# Altium schematic symbol library pwr_switching_buck_hv.SchLib: 116 symbols (part 1 of 2)
Pins are listed as number, name and electrical type; pins without a type are passive.

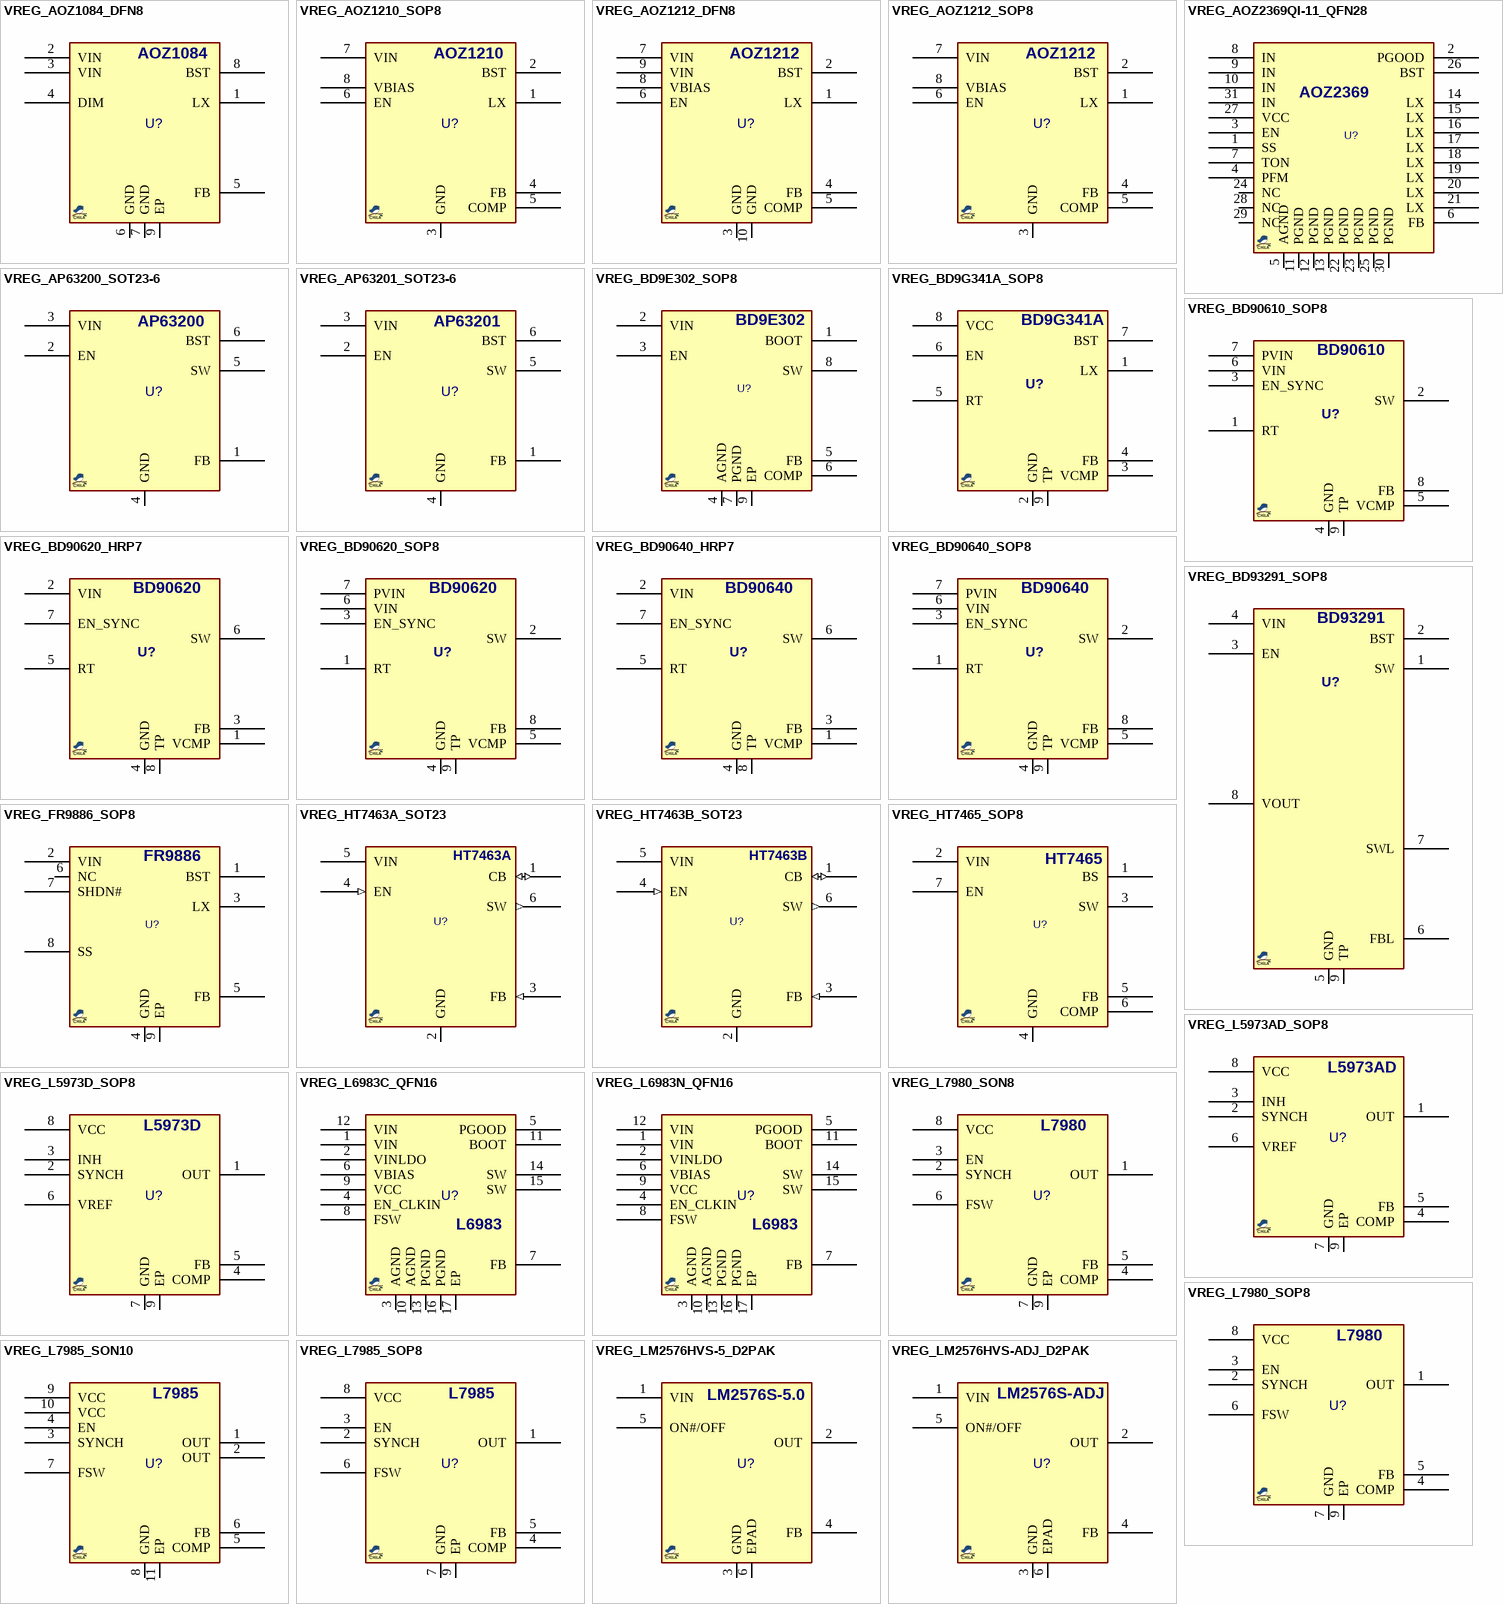
[diagram p0: symbols VREG_AOZ1084_DFN8 to VREG_LM2576HVS-ADJ_D2PAK]

## VREG_AOZ1084_DFN8
designator U?, comment AOZ1084  (value not drawn)
REG, Switching, Buck LED driv, 1.2A, ADJ, 0.45MHz, 4.5~36VIN, DFN8; MANF: AOSMD; PARAM: 1.2A, 0.45MHz, -40~85°C; PARAM2: 4.5~36VIN, 420mΩ RDSon; MANF_P#: AOZ1084DI; ASSEMBLY: ASSEMBLY; PRICE: 1$; VALUE: AOZ1084; PACKAGE: DFN-8
footprint SON50_8T_2020 (DSG PWSON (TI), Pitch: 0.5mm 2x2x0.8mm with Thermal pad)
pins: 1 LX, 2 VIN, 3 VIN, 4 DIM, 5 FB, 6 GND, 7 GND, 8 BST, 9 EP

## VREG_AOZ1210_SOP8
designator U?, comment AOZ1210  (value not drawn)
REG, Switching, Buck, 2A, ADJ, 0.37MHz, 4.5~27VIN, SOP8; MANF: AOSMD; PARAM: 2A, 0.37MHz, -40~85°C; PARAM2: 4.5~27VIN, ADJ, 70mΩ RDSon; MANF_P#: AOZ1210AI; ASSEMBLY: ASSEMBLY; PRICE: 1$; VALUE: AOZ1210; PACKAGE: SOP-8
footprint SO_8 (SOP-8, 5x3.9mm body 1.27mm pitch, SOT96-1, M08A, S8, SOIC8, VO8, MS-012AA(JEDEC), R-8, 8S2, VOG8)
pins: 1 LX, 2 BST, 3 GND, 4 FB, 5 COMP, 6 EN, 7 VIN, 8 VBIAS

## VREG_AOZ1212_DFN8
designator U?, comment AOZ1212  (value not drawn)
REG, Switching, Buck, 3A, ADJ, 0.37MHz, 4.5~27VIN, DFN8; MANF: AOSMD; PARAM: 3A, 0.37MHz, -40~85°C; PARAM2: 4.5~27VIN, ADJ, 70mΩ RDSon; MANF_P#: AOZ1212DI; ASSEMBLY: ASSEMBLY; PRICE: 1$; VALUE: AOZ1212; PACKAGE: DFN-8
footprint SON95_8T2_5040 (5x4A DFN-8, 0.95mm pitch, 5X4X0.8mm)
pins: 1 LX, 2 BST, 3 GND, 4 FB, 5 COMP, 6 EN, 7 VIN, 8 VBIAS, 9 VIN, 10 GND

## VREG_AOZ1212_SOP8
designator U?, comment AOZ1212  (value not drawn)
REG, Switching, Buck, 3A, ADJ, 0.37MHz, 4.5~27VIN, SOP8; MANF: AOSMD; PARAM: 3A, 0.37MHz, -40~85°C; PARAM2: 4.5~27VIN, ADJ, 70mΩ RDSon; MANF_P#: AOZ1212AI; ASSEMBLY: ASSEMBLY; PRICE: 1$; VALUE: AOZ1212; PACKAGE: SOP-8
footprint SO_8 (SOP-8, 5x3.9mm body 1.27mm pitch, SOT96-1, M08A, S8, SOIC8, VO8, MS-012AA(JEDEC), R-8, 8S2, VOG8)
pins: 1 LX, 2 BST, 3 GND, 4 FB, 5 COMP, 6 EN, 7 VIN, 8 VBIAS

## VREG_AOZ2369QI-11_QFN28
designator U?, comment AOZ2369QI-11  (value not drawn)
REG, Switching, Buck, 30A, ADJ, 1MHz, 4.5~24VIN, QFN28; MANF: AOS; PARAM: 30A, 1MHz, -40~85°C; PARAM2: 4.5~24VIN, ADJ, 3/0.9mOhm RDSon; MANF_P#: AOZ2369QI-11; ASSEMBLY: ASSEMBLY; PRICE: ?; VALUE: AOZ2369QI-11; PACKAGE: QFN-28
footprint QFN50_28_EP3 (QFN5x5-28L EP3_S)
pins: 1 SS, 2 PGOOD, 3 EN, 4 PFM, 5 AGND, 6 FB, 7 TON, 8 IN, 9 IN, 10 IN, 11 PGND, 12 PGND, 13 PGND, 14 LX, 15 LX, 16 LX, 17 LX, 18 LX, 19 LX, 20 LX, 21 LX, 22 PGND, 23 PGND, 24 NC, 25 PGND, 26 BST, 27 VCC, 28 NC, 29 NC, 30 PGND, 31 IN
text: AOZ2369

## VREG_AP63200_SOT23-6
designator U?, comment AP63200  (value not drawn)
REG, Switching, Buck, 2A, ADJ, 0.5MHz, 3.8~32VIN, SOT23-6; MANF: DIODES; PARAM: 2A, 0.5MHz, PWM/PFM, -40~125oC; PARAM2: 3.8~32VIN, ADJ, 125mΩ RDSon; MANF_P#: AP63200WU-7; ASSEMBLY: ASSEMBLY; PRICE: 1$; VALUE: AP63200; PACKAGE: SOT23-6
footprint SOT23_6 (SOT-23-6, MICRO6, SOT-26, SOT457, SuperSOT6, TSOP-6, HMC313, MO-178AB, MO-193AA, TSOT)
pins: 1 FB, 2 EN, 3 VIN, 4 GND, 5 SW, 6 BST

## VREG_AP63201_SOT23-6
designator U?, comment AP63201  (value not drawn)
REG, Switching, Buck, 2A, ADJ, 0.5MHz, 3.8~32VIN, SOT23-6; MANF: DIODES; PARAM: 2A, 0.5MHz, PWM only, -40~125oC; PARAM2: 3.8~32VIN, ADJ, 125mΩ RDSon; MANF_P#: AP63201WU-7; ASSEMBLY: ASSEMBLY; PRICE: 1$; VALUE: AP63201; PACKAGE: SOT23-6
footprint SOT23_6 (SOT-23-6, MICRO6, SOT-26, SOT457, SuperSOT6, TSOP-6, HMC313, MO-178AB, MO-193AA, TSOT)
pins: 1 FB, 2 EN, 3 VIN, 4 GND, 5 SW, 6 BST

## VREG_BD9E302_SOP8
designator U?, comment BD9E302  (value not drawn)
REG, Switching, Buck, 3A, ADJ, 0.55MHz, 7.0~28VIN, SOP8; MANF: ROHM; MANF_P#: BD9E302EFJ; PARAM: 3A, 0.55MHz, -40~85oC; PARAM2: 7.0~28VIN, ADJ, 90/70mOhm RDSon; ASSEMBLY: ASSEMBLY; PRICE: 1$; VALUE: BD9E302; PACKAGE: SOP-8
footprint SO_8T (SOP-8, 5x3.9mm body 0.5mm pitch, DDA, SO PowerPAD)
pins: 1 BOOT, 2 VIN, 3 EN, 4 AGND, 5 FB, 6 COMP, 7 PGND, 8 SW, 9 EP

## VREG_BD9G341A_SOP8
designator U?, comment BD9G341A  (value not drawn)
REG, Switching, Buck, 3A, ADJ, 0.75MHz, 12~76VIN, SOP8; MANF: ROHM; MANF_P#: BD9G341AEFJ; PARAM2: 12~76Vin, 150mOhm RDSon; PARAM: 3A, 0.75MHz, -40+85°C; ASSEMBLY: ASSEMBLY; PRICE: 4$; VALUE: BD9G341A; PACKAGE: SOP-8
footprint SO_8T (SOP-8, 5x3.9mm body 0.5mm pitch, DDA, SO PowerPAD)
pins: 1 LX "Switching node. It should be connected as near as possible to the schottky barrier diode, and inductor.", 2 GND "Ground pin. GND pattern is kept from the current line of input capacitor to output capacitor.", 3 VCMP "The output of the internal error amplifier. The phase compensation implementation is connected between this pin to GND.", 4 FB "Voltage feedback pin. This pin is the error-amp input with the DC voltage is set at 1.0V with feed-back operation.", 5 RT "The internal oscillator frequency set pin. The internal oscillator is set with a single resistor connected between this pin and the GND pin. Recommended frequency range is 50kHz to 750kHz", 6 EN "Shutdown pin. If the voltage of this pin is below 1.3V,the regulator will be in a low power state.", 7 BST "Boost input for bootstrap capacitor The external capacitor is required between the BST and the Lx pin. A 0.1uF ceramic capacitor is recommended.", 8 VCC "Input supply voltage pin.", 9 TP "Connect to GND."

## VREG_BD90610_SOP8
designator U?, comment BD90610  (value not drawn)
REG, Switching, Buck, 1.25A, ADJ, 0.6MHz, 3.5~36VIN, SOP8; MANF: ROHM; MANF_P#: BD90610EFJ; PARAM2: 3.5~36Vin, 160mOhm RDSon; PARAM: 1.25A, 0.6MHz, -40+85°C; ASSEMBLY: ASSEMBLY; PRICE: 1.8$; VALUE: BD90610; PACKAGE: SOP-8
footprint SO_8T (SOP-8, 5x3.9mm body 0.5mm pitch, DDA, SO PowerPAD)
pins: 1 RT "Input supply voltage pin.", 2 SW "Input supply voltage pin.", 3 EN_SYNC "Input supply voltage pin.", 4 GND "Ground pin. GND pattern is kept from the current line of input capacitor to output capacitor.", 5 VCMP "Input supply voltage pin.", 6 VIN "Input supply voltage pin.", 7 PVIN "Input supply voltage pin.", 8 FB "Input supply voltage pin.", 9 TP "Connect to GND."

## VREG_BD90620_HRP7
designator U?, comment BD90620  (value not drawn)
REG, Switching, Buck, 2.5A, ADJ, 0.6MHz, 3.5~36VIN, SOP8; MANF: ROHM; MANF_P#: BD90620HFP; PARAM2: 3.5~36Vin, 160mOhm RDSon; PARAM: 2.5A, 0.6MHz, -40+85°C; ASSEMBLY: ASSEMBLY; PRICE: 3.5$; VALUE: BD90620; PACKAGE: HRP-7
footprint HRP_7 (HRP7, 1.27mm pitch)
pins: 1 VCMP "Input supply voltage pin.", 2 VIN "Input supply voltage pin.", 3 FB "Input supply voltage pin.", 4 GND "Ground pin. GND pattern is kept from the current line of input capacitor to output capacitor.", 5 RT "Input supply voltage pin.", 6 SW "Input supply voltage pin.", 7 EN_SYNC "Input supply voltage pin.", 8 TP "Connect to GND."

## VREG_BD90620_SOP8
designator U?, comment BD90620  (value not drawn)
REG, Switching, Buck, 2.5A, ADJ, 0.6MHz, 3.5~36VIN, SOP8; MANF: ROHM; MANF_P#: BD90620EFJ; PARAM2: 3.5~36Vin, 160mOhm RDSon; PARAM: 2.5A, 0.6MHz, -40+85°C; ASSEMBLY: ASSEMBLY; PRICE: 1.8$; VALUE: BD90620; PACKAGE: SOP-8
footprint SO_8T (SOP-8, 5x3.9mm body 0.5mm pitch, DDA, SO PowerPAD)
pins: 1 RT "Input supply voltage pin.", 2 SW "Input supply voltage pin.", 3 EN_SYNC "Input supply voltage pin.", 4 GND "Ground pin. GND pattern is kept from the current line of input capacitor to output capacitor.", 5 VCMP "Input supply voltage pin.", 6 VIN "Input supply voltage pin.", 7 PVIN "Input supply voltage pin.", 8 FB "Input supply voltage pin.", 9 TP "Connect to GND."

## VREG_BD90640_HRP7
designator U?, comment BD90640  (value not drawn)
REG, Switching, Buck, 4A, ADJ, 0.6MHz, 3.5~36VIN, HRP7; MANF: ROHM; MANF_P#: BD90640HFP; PARAM2: 3.5~36Vin, 160mOhm RDSon; PARAM: 4A, 0.6MHz, -40+85°C; ASSEMBLY: ASSEMBLY; PRICE: 2.4$; VALUE: BD90640; PACKAGE: HRP-7
footprint HRP_7 (HRP7, 1.27mm pitch)
pins: 1 VCMP "Input supply voltage pin.", 2 VIN "Input supply voltage pin.", 3 FB "Input supply voltage pin.", 4 GND "Ground pin. GND pattern is kept from the current line of input capacitor to output capacitor.", 5 RT "Input supply voltage pin.", 6 SW "Input supply voltage pin.", 7 EN_SYNC "Input supply voltage pin.", 8 TP "Connect to GND."

## VREG_BD90640_SOP8
designator U?, comment BD90640  (value not drawn)
REG, Switching, Buck, 4A, ADJ, 0.6MHz, 3.5~36VIN, SOP8; MANF: ROHM; MANF_P#: BD90640EFJ; PARAM2: 3.5~36Vin, 160mOhm RDSon; PARAM: 4A, 0.6MHz, -40+85°C; ASSEMBLY: ASSEMBLY; PRICE: 1.8$; VALUE: BD90640; PACKAGE: SOP-8
footprint SO_8T (SOP-8, 5x3.9mm body 0.5mm pitch, DDA, SO PowerPAD)
pins: 1 RT "Input supply voltage pin.", 2 SW "Input supply voltage pin.", 3 EN_SYNC "Input supply voltage pin.", 4 GND "Ground pin. GND pattern is kept from the current line of input capacitor to output capacitor.", 5 VCMP "Input supply voltage pin.", 6 VIN "Input supply voltage pin.", 7 PVIN "Input supply voltage pin.", 8 FB "Input supply voltage pin.", 9 TP "Connect to GND."

## VREG_BD93291_SOP8
designator U?, comment BD93291  (value not drawn)
REG, Switching, Buck, Dual 2.5A/1.5A, ADJ, 0.3~0.6MHz, 8~26VIN, SOP8; MANF: ROHM; MANF_P#: BD93291EFJ; PARAM2: 8~26Vin, 5Vo1/Adj Vo2; PARAM: Dual 2.5A/1.5A, 0.3~0.6MHz, -40+85°C; ASSEMBLY: ASSEMBLY; PRICE: 1.8$; VALUE: BD93291; PACKAGE: SOP-8
footprint SO_8T (SOP-8, 5x3.9mm body 0.5mm pitch, DDA, SO PowerPAD)
pins: 1 SW "Input supply voltage pin.", 2 BST "Input supply voltage pin.", 3 EN "Input supply voltage pin.", 4 VIN "Input supply voltage pin.", 5 GND "Ground pin. GND pattern is kept from the current line of input capacitor to output capacitor.", 6 FBL "Input supply voltage pin.", 7 SWL "Input supply voltage pin.", 8 VOUT "Input supply voltage pin.", 9 TP "Connect to GND."

## VREG_FR9886_SOP8
designator U?, comment FR9886  (value not drawn)
REG, Switching, Buck, 2.5A, ADJ, 0.34MHz, 4.5~23VIN, SOP8; MANF: FITI; MANF_P#: FR9886SO, FR9886SP; PARAM: 3A, 0.34MHz, -40~85°C; PARAM2: 4.5~23VIN, ADJ, 120mOhm RDSon; ASSEMBLY: ASSEMBLY; PRICE: 2t; VALUE: FR9886; PACKAGE: SOP-8
footprint SO_8T (SOP-8, 5x3.9mm body 0.5mm pitch, DDA, SO PowerPAD)
pins: 1 BST, 2 VIN, 3 LX, 4 GND, 5 FB, 6 NC, 7 SHDN#, 8 SS, 9 EP

## VREG_HT7463A_SOT23
designator U?, comment HT7463A  (value not drawn)
REG, Switching, Buck, 0.6A, ADJ, 1.25MHz, 4.5~52VIN, SOT23-6; MANF: HOLTEK; PARAM2: 4.5~52Vin, 0.9Ohm RDSon; PARAM: 0.6A, 1.25MHz, -40+85°C; ASSEMBLY: ASSEMBLY; MANF_P#: HT7463A; PRICE: 1.4t@Micromodern; VALUE: HT7463A; PACKAGE: SOT23-6
footprint SOT23_6 (SOT-23-6, DDC, DBV, MICRO6, SOT-26, SOT457, SuperSOT6, TSOP-6, HMC313, TSOT, 1.5x3mm, Pitch 0.65mm, CA531, MO-178AB, MO-193AA)
pins: 1 CB (io) "SW FET gate bias voltage. Connect the boot capacitor between CB and SW", 2 GND (power) "Ground terminal", 3 FB (in) "Feedback pin: Set feedback voltage divider ratio with VOUT = VFB (1+(R1/R2))", 4 EN (in) "Logic level shutdown pin. Internal pull low resistor", 5 VIN (power) "Power supply", 6 SW (out) "Power FET output"

## VREG_HT7463B_SOT23
designator U?, comment HT7463B  (value not drawn)
REG, Switching, Buck, 0.6A, ADJ, 0.55MHz, 4.5~52VIN, SOT23-6; MANF: HOLTEK; PARAM2: 4.5~52Vin, 0.9Ohm RDSon; PARAM: 0.6A, 0.55MHz, -40+85°C; ASSEMBLY: ASSEMBLY; MANF_P#: HT7463B; PRICE: 1.4t@Micromodern; VALUE: HT7463B; PACKAGE: SOT23-6
footprint SOT23_6 (SOT-23-6, DDC, DBV, MICRO6, SOT-26, SOT457, SuperSOT6, TSOP-6, HMC313, TSOT, 1.5x3mm, Pitch 0.65mm, CA531, MO-178AB, MO-193AA)
pins: 1 CB (io) "SW FET gate bias voltage. Connect the boot capacitor between CB and SW", 2 GND (power) "Ground terminal", 3 FB (in) "Feedback pin: Set feedback voltage divider ratio with VOUT = VFB (1+(R1/R2))", 4 EN (in) "Logic level shutdown pin. Internal pull low resistor", 5 VIN (power) "Power supply", 6 SW (out) "Power FET output"

## VREG_HT7465_SOP8
designator U?, comment HT7465  (value not drawn)
REG, Switching, Buck, 2A, ADJ, 0.38MHz, 4.75~24VIN, SOP-A8; MANF: HOLTEK; PARAM: 2A, ADJ, -40~85oC; MANF_P#: HT7465; ASSEMBLY: ASSEMBLY; PARAM2: 0.38MHz, 4.75~24VIN; PRICE: 2.2t@micromodern; VALUE: HT7465; PACKAGE: SOP-8
footprint SO_8 (SOP-8, 5x3.9mm body 1.27mm pitch, SOT96-1, M08A, S8, SOIC8, VO8, MS-012AA(JEDEC), R-8, 8S2, VOG8)
pins: 1 BS, 2 VIN, 3 SW, 4 GND, 5 FB, 6 COMP, 7 EN

## VREG_L5973AD_SOP8
designator U?, comment L5973AD  (value not drawn)
REG, Switching, Buck, 2A, ADJ, 0.5MHz, 4~36VIN, SOP8; MANF: ST; PARAM: 2A, 0.5MHz, -40~125°C; PARAM2: 4~36VIN, ADJ, 200mΩ RDSon; ASSEMBLY: ASSEMBLY; PRICE: 1.8$; MANF_P#: L5973AD; VALUE: L5973AD; PACKAGE: SOP-8
footprint SO_8T (SOP-8, 5x3.9mm body 0.5mm pitch, DDA, SO PowerPAD)
pins: 1 OUT (power) "Power supply", 2 SYNCH (power) "Power supply", 3 INH (power) "Power supply", 4 COMP (power) "Power supply", 5 FB (power) "Power supply", 6 VREF (power) "Power supply", 7 GND (power) "Power supply", 8 VCC (power) "Power supply", 9 EP (power) "Power supply"

## VREG_L5973D_SOP8
designator U?, comment L5973D  (value not drawn)
REG, Switching, Buck, 2.5A, ADJ, 0.25MHz, 4~36VIN, SOP8; MANF: ST; PARAM: 2.5A, 0.25MHz, -40~125°C; PARAM2: 4~36VIN, ADJ, 250mΩ RDSon; ASSEMBLY: ASSEMBLY; PRICE: 1.8$; MANF_P#: L5973D; VALUE: L5973D; PACKAGE: SOP-8
footprint SO_8T (SOP-8, 5x3.9mm body 0.5mm pitch, DDA, SO PowerPAD)
pins: 1 OUT (power) "Power supply", 2 SYNCH (power) "Power supply", 3 INH (power) "Power supply", 4 COMP (power) "Power supply", 5 FB (power) "Power supply", 6 VREF (power) "Power supply", 7 GND (power) "Power supply", 8 VCC (power) "Power supply", 9 EP (power) "Power supply"

## VREG_L6983C_QFN16
designator U?, comment L6983  (value not drawn)
REG, Switching, Buck, 3A, ADJ, 0.2~2.2MHz, 3.5~38VIN, QFN16; MANF: ST; PARAM: 3A, 0.2~2.2MHz, -40~125°C; PARAM2: 3.5~38VIN, ADJ, Low Consumption; MANF_P#: L6983CQ; ASSEMBLY: ASSEMBLY; PRICE: 2.5$; VALUE: L6983; PACKAGE: QFN-16
footprint QFN50_16T_3X3 (RGT PVQFN (TI), 16-lead, pitch: 0.5mm, 3x3mm)
pins: 1 VIN, 2 VINLDO, 3 AGND, 4 EN_CLKIN, 5 PGOOD, 6 VBIAS, 7 FB, 8 FSW, 9 VCC, 10 AGND, 11 BOOT, 12 VIN, 13 PGND, 14 SW, 15 SW, 16 PGND, 17 EP (power) "Power supply"

## VREG_L6983N_QFN16
designator U?, comment L6983  (value not drawn)
REG, Switching, Buck, 3A, ADJ, 0.2~2.2MHz, 3.5~38VIN, QFN16; MANF: ST; PARAM: 3A, 0.2~2.2MHz, -40~125°C; PARAM2: 3.5~38VIN, ADJ, Low Noise; MANF_P#: L6983NQ; ASSEMBLY: ASSEMBLY; PRICE: 2.5$; VALUE: L6983; PACKAGE: QFN-16
footprint QFN50_16T_3X3 (RGT PVQFN (TI), 16-lead, pitch: 0.5mm, 3x3mm)
pins: 1 VIN, 2 VINLDO, 3 AGND, 4 EN_CLKIN, 5 PGOOD, 6 VBIAS, 7 FB, 8 FSW, 9 VCC, 10 AGND, 11 BOOT, 12 VIN, 13 PGND, 14 SW, 15 SW, 16 PGND, 17 EP (power) "Power supply"

## VREG_L7980_SON8
designator U?, comment L7980  (value not drawn)
REG, Switching, Buck, 2A, ADJ, 0.25~1MHz, 4.5~28VIN, SON8; MANF: ST; PARAM: 2A, 0.25~1MHz, -40~125°C; PARAM2: 4.5~28VIN, ADJ, 180mΩ RDSon; ASSEMBLY: ASSEMBLY; PRICE: 1.8$; MANF_P#: L7980; VALUE: L7980; PACKAGE: WSON-8
footprint SON50_8T_3030 (WSON-8, DRG, LFCSP_WD, 3X3mm 0.5mm pitch with Thermal pad)
pins: 1 OUT (power) "Power supply", 2 SYNCH (power) "Power supply", 3 EN (power) "Power supply", 4 COMP (power) "Power supply", 5 FB (power) "Power supply", 6 FSW (power) "Power supply", 7 GND (power) "Power supply", 8 VCC (power) "Power supply", 9 EP (power) "Power supply"

## VREG_L7980_SOP8
designator U?, comment L7980  (value not drawn)
REG, Switching, Buck, 2A, ADJ, 0.25~1MHz, 4.5~28VIN, SOP8; MANF: ST; PARAM: 2A, 0.25~1MHz, -40~125°C; PARAM2: 4.5~28VIN, ADJ, 180mΩ RDSon; MANF_P#: L7980A; ASSEMBLY: ASSEMBLY; PRICE: 1.8$; VALUE: L7980; PACKAGE: SOP-8
footprint SO_8T (SOP-8, 5x3.9mm body 0.5mm pitch, DDA, SO PowerPAD)
pins: 1 OUT (power) "Power supply", 2 SYNCH (power) "Power supply", 3 EN (power) "Power supply", 4 COMP (power) "Power supply", 5 FB (power) "Power supply", 6 FSW (power) "Power supply", 7 GND (power) "Power supply", 8 VCC (power) "Power supply", 9 EP (power) "Power supply"

## VREG_L7985_SON10
designator U?, comment L7985  (value not drawn)
REG, Switching, Buck, 2A, ADJ, 0.25~1MHz, 4.5~28VIN, SON10; MANF: ST; PARAM: 2A, 0.25~1MHz, -40~125°C; PARAM2: 4.5~38VIN, ADJ, 180mΩ RDSon; MANF_P#: L7985T; ASSEMBLY: ASSEMBLY; PRICE: 2$; VALUE: L7985; PACKAGE: VFDFPN10
footprint SON50_10T_3030 (DRC SON, 10 TDFN, 3X3mm, Pitch: 0.5mm with thermal pad)
pins: 1 OUT (power) "Power supply", 2 OUT (power) "Power supply", 3 SYNCH (power) "Power supply", 4 EN (power) "Power supply", 5 COMP (power) "Power supply", 6 FB (power) "Power supply", 7 FSW (power) "Power supply", 8 GND (power) "Power supply", 9 VCC (power) "Power supply", 10 VCC (power) "Power supply", 11 EP (power) "Power supply"

## VREG_L7985_SOP8
designator U?, comment L7985  (value not drawn)
REG, Switching, Buck, 2A, ADJ, 0.25~1MHz, 4.5~28VIN, SOP8; MANF: ST; PARAM: 2A, 0.25~1MHz, -40~125°C; PARAM2: 4.5~38VIN, ADJ, 180mΩ RDSon; MANF_P#: L7985A; ASSEMBLY: ASSEMBLY; PRICE: 2$; VALUE: L7985; PACKAGE: SOP-8
footprint SO_8T (SOP-8, 5x3.9mm body 0.5mm pitch, DDA, SO PowerPAD)
pins: 1 OUT (power) "Power supply", 2 SYNCH (power) "Power supply", 3 EN (power) "Power supply", 4 COMP (power) "Power supply", 5 FB (power) "Power supply", 6 FSW (power) "Power supply", 7 GND (power) "Power supply", 8 VCC (power) "Power supply", 9 EP (power) "Power supply"

## VREG_LM2576HVS-5_D2PAK
designator U?, comment LM2576S-5.0  (value not drawn)
REG, Switching, Buck, 3A, 5V, 50KHz, HV, TO-263; MANF: TI, ON, HTC, MICROCHIP; PARAM: 3A,; PARAM2: 50KHz, 60VIN, 5V; MANF_P#: LM2576HVS-5.0; ASSEMBLY: ASSEMBLY; PRICE: PRICE; VALUE: LM2576S-5.0; PACKAGE: D2PAK-5 (TO-263-5)
footprint D2PAK_5 (TO-263-5L, D2PAK-5, DDPAK, FMG170_5_S1000)
pins: 1 VIN (power), 2 OUT (power), 3 GND (power), 4 FB, 5 ON#/OFF, 6 EPAD

## VREG_LM2576HVS-ADJ_D2PAK
designator U?, comment LM2576HVS-ADJ  (value not drawn)
REG, Switching, Buck, 3A, ADJ, 50KHz, TO-263; MANF: TI, ON, HTC, MICROCHIP; PARAM2: 50KHz, 60VIN, ADJ; ASSEMBLY: ASSEMBLY; PARAM: 3A; PRICE: PRICE; MANF_P#: LM2576HVS-ADJ; VALUE: LM2576HVS-ADJ; PACKAGE: D2PAK-5 (TO-263-5)
footprint D2PAK_5 (TO-263-5L, D2PAK-5, DDPAK, FMG170_5_S1000)
pins: 1 VIN (power), 2 OUT (power), 3 GND (power), 4 FB, 5 ON#/OFF, 6 EPAD
text: LM2576S-ADJ

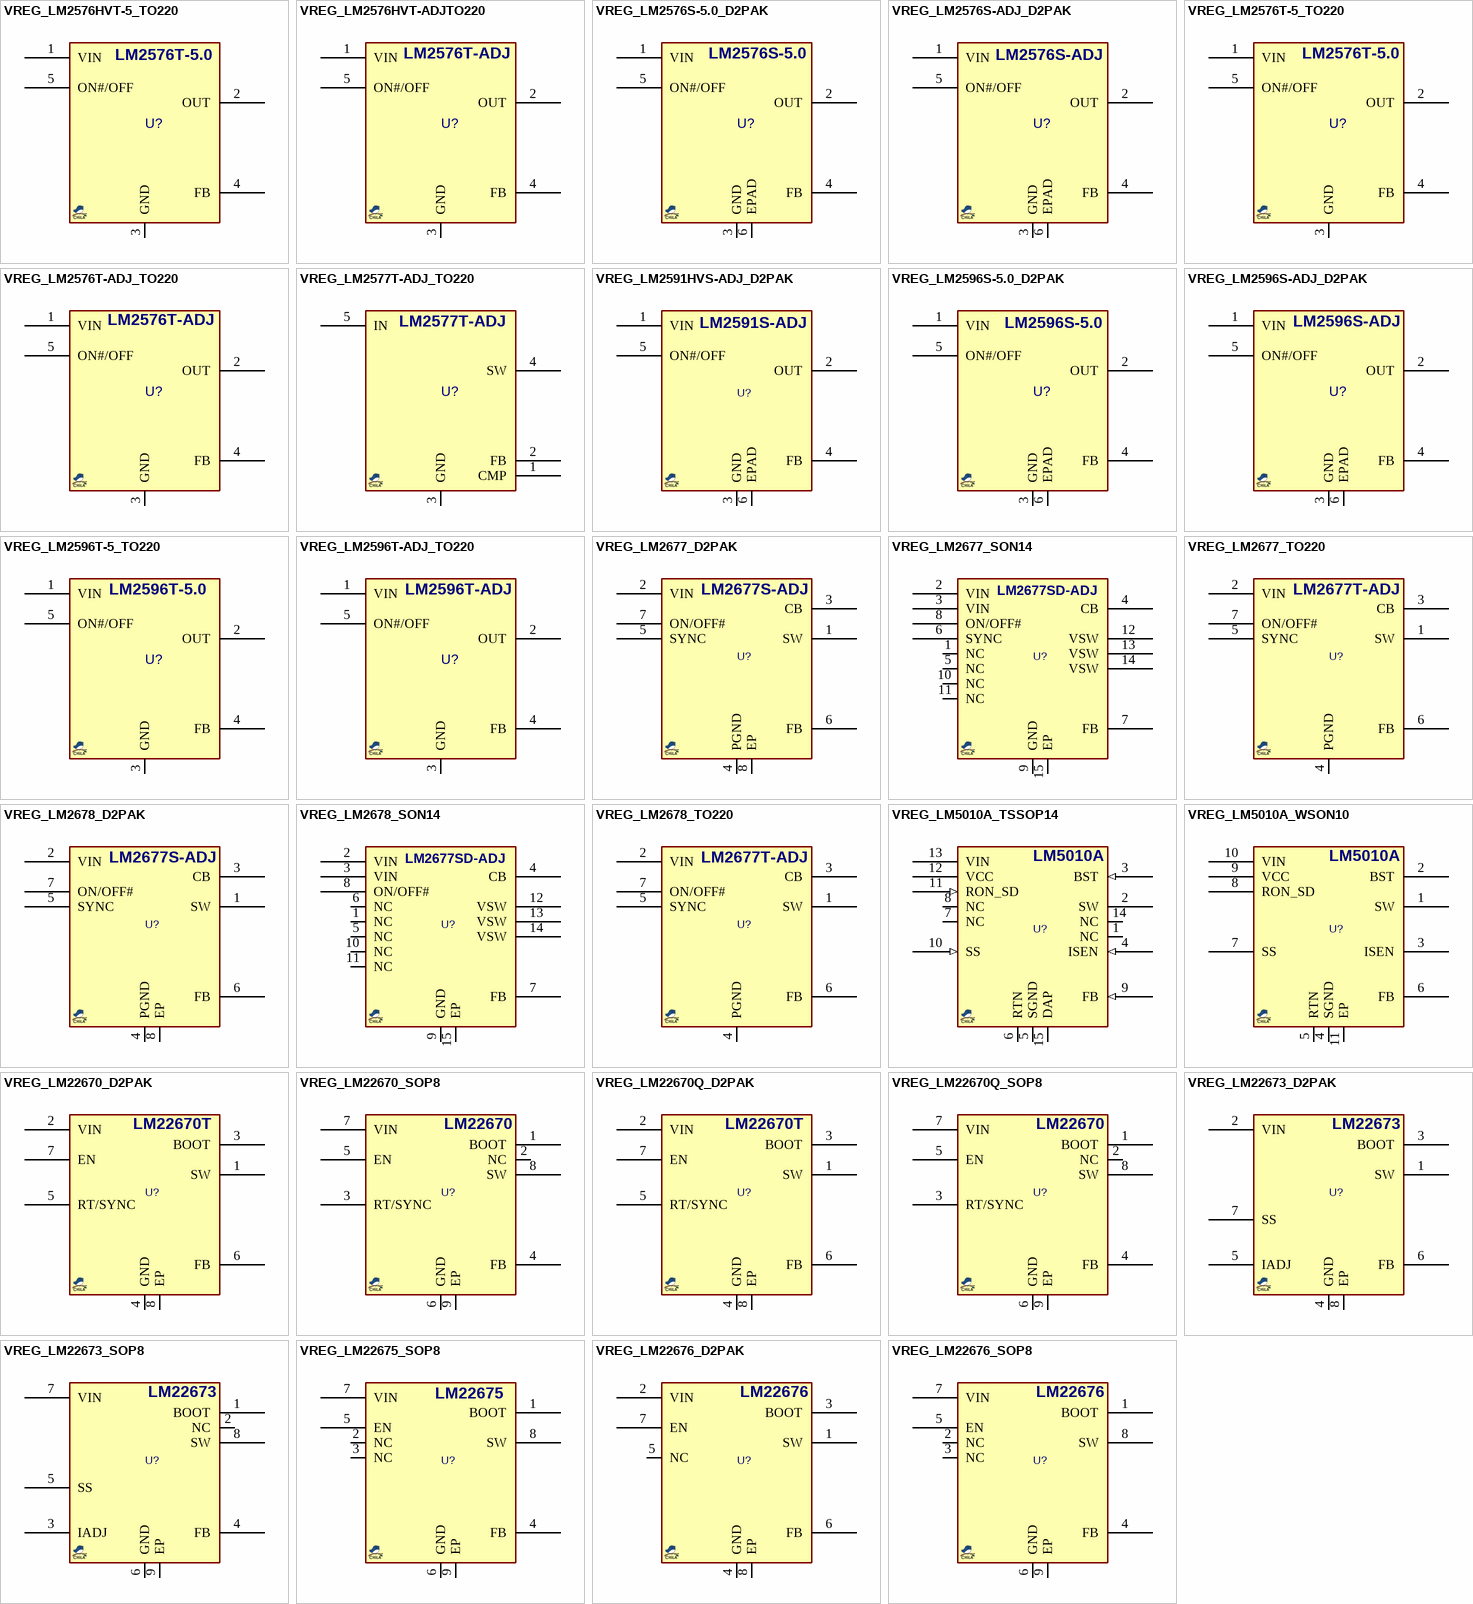
[diagram p1: symbols VREG_LM2576HVT-5_TO220 to VREG_LM22676_SOP8]

## VREG_LM2576HVT-5_TO220
designator U?, comment LM2576HVT-5  (value not drawn)
REG, Switching, Buck, 3A, 5V, 50KHz, HV, TO-220; MANF: TI, ON, HTC, MICROCHIP; PARAM: 3A, 5V; PARAM2: 50KHz, 60VIN; MANF_P#: LM2576HVT-5.0; ASSEMBLY: ASSEMBLY; PRICE: PRICE; DESC: REG, Switching, Buck, 3A, 5V, 50KHz, HV, TO-220; VALUE: LM2576HVT-5; PACKAGE: TO-220-5
footprint TO220_5 (TO-220 STRAIGHT, T05A pitch: 1.7mm)
pins: 1 VIN (power), 2 OUT (power), 3 GND (power), 4 FB, 5 ON#/OFF
text: LM2576T-5.0

## VREG_LM2576HVT-ADJTO220
designator U?, comment LM2576HVT-ADJ  (value not drawn)
REG, Switching, Buck, 3A, ADJ, 50KHz, HV, TO-220; MANF: TI, ON, HTC, MICROCHIP; PARAM: 3A, ADJ; PARAM2: 50KHz, 60VIN; ASSEMBLY: ASSEMBLY; PRICE: PRICE; DESC: REG, Switching, Buck, 3A, ADJ, 50KHz, HV, TO-220; MANF_P#: LM2576HVT-ADJ; VALUE: LM2576HVT-ADJ; PACKAGE: TO-220-5
footprint TO220_5 (TO-220 STRAIGHT, T05A pitch: 1.7mm)
pins: 1 VIN (power), 2 OUT (power), 3 GND (power), 4 FB, 5 ON#/OFF
text: LM2576T-ADJ

## VREG_LM2576S-5.0_D2PAK
designator U?, comment LM2576S-5.0  (value not drawn)
REG, Switching, Buck, 3A, 5V, 50KHz, TO-220; MANF: TI, ON, HTC, MICROCHIP; PARAM: 3A, 5V; DESC: REG, Switching, Buck, 3A, ADJ, 50KHz, TO-220; PARAM2: 50KHz, 40VIN; ASSEMBLY: ASSEMBLY; PRICE: PRICE; MANF_P#: LM2576S-5.0; VALUE: LM2576S-5.0; PACKAGE: D2PAK-5 (TO-263-5)
footprint D2PAK_5 (TO-263-5L, D2PAK-5, DDPAK, FMG170_5_S1000)
pins: 1 VIN (power), 2 OUT (power), 3 GND (power), 4 FB, 5 ON#/OFF, 6 EPAD

## VREG_LM2576S-ADJ_D2PAK
designator U?, comment LM2576S-ADJ  (value not drawn)
REG, Switching, Buck, 3A, ADJ, 50KHz, TO-220; MANF: TI, ON, HTC, MICROCHIP; PARAM: 3A, ADJ; PARAM2: 50KHz, 40VIN; ASSEMBLY: ASSEMBLY; PRICE: PRICE; DESC: REG, Switching, Buck, 3A, ADJ, 50KHz, TO-220; MANF_P#: LM2576S-ADJ; VALUE: LM2576S-ADJ; PACKAGE: D2PAK-5 (TO-263-5)
footprint D2PAK_5 (TO-263-5L, D2PAK-5, DDPAK, FMG170_5_S1000)
pins: 1 VIN (power), 2 OUT (power), 3 GND (power), 4 FB, 5 ON#/OFF, 6 EPAD

## VREG_LM2576T-5_TO220
designator U?, comment LM2576T-5  (value not drawn)
REG, Switching, Buck, 3A, 5.0V, 50KHz, TO-220; MANF: TI, ON, HTC, MICROCHIP; PARAM: 3A, 5V; DESC: REG, Switching, Buck, 3A, ADJ, 50KHz, TO-220; PARAM2: 50KHz, 40VIN; MANF_P#: LM2576T-5.0; ASSEMBLY: ASSEMBLY; PRICE: PRICE; VALUE: LM2576T-5; PACKAGE: TO-220-5
footprint TO220_5 (TO-220 STRAIGHT, T05A pitch: 1.7mm)
pins: 1 VIN (power), 2 OUT (power), 3 GND (power), 4 FB, 5 ON#/OFF

## VREG_LM2576T-ADJ_TO220
designator U?, comment LM2576T-ADJ  (value not drawn)
REG, Switching, Buck, 3A, ADJ, 50KHz, TO-220; MANF: TI, ON, HTC, MICROCHIP; PARAM: 3A, ADJ; PARAM2: 50KHz, 40VIN; ASSEMBLY: ASSEMBLY; PRICE: PRICE; DESC: REG, Switching, Buck, 3A, ADJ, 50KHz, TO-220; MANF_P#: LM2576T-ADJ; VALUE: LM2576T-ADJ; PACKAGE: TO-220-5
footprint TO220_5 (TO-220 STRAIGHT, T05A pitch: 1.7mm)
pins: 1 VIN (power), 2 OUT (power), 3 GND (power), 4 FB, 5 ON#/OFF

## VREG_LM2577T-ADJ_TO220
designator U?, comment LM2577T-ADJ  (value not drawn)
REG, Switching, Buck, 3A, ADJ, 52KHz, TO-220; MANF: TI, ON; PARAM: 3A, ADJ; PARAM2: 52KHz, 40VIN; ASSEMBLY: ASSEMBLY; PRICE: PRICE; DESC: REG, Switching, Buck, 3A, ADJ, 52KHz, TO-220; MANF_P#: LM2577T-ADJ; VALUE: LM2577T-ADJ; PACKAGE: TO-220-5
footprint TO220_5 (TO-220 STRAIGHT, T05A pitch: 1.7mm)
pins: 1 CMP, 2 FB, 3 GND (power), 4 SW (power), 5 IN (power)

## VREG_LM2591HVS-ADJ_D2PAK
designator U?, comment LM2591HVS-ADJ  (value not drawn)
REG, Switching, Buck, 1A, ADJ, 150KHz, TO-263; MANF: Texas Instruments; PARAM2: 4.75~60V, ADJ; PARAM: 1A, 150kHz; ASSEMBLY: ASSEMBLY; MANF_P#: LM2591HVS-ADJ; VALUE: LM2591HVS-ADJ; PACKAGE: D2PAK-5 (TO-263-5)
footprint D2PAK_5
pins: 1 VIN (power), 2 OUT (power), 3 GND (power), 4 FB, 5 ON#/OFF, 6 EPAD
text: LM2591S-ADJ

## VREG_LM2596S-5.0_D2PAK
designator U?, comment LM2596S-5.0  (value not drawn)
REG, Switching, Buck, 3A, 5V, 150KHz, TO-220; MANF: TI, ON, TS; PARAM: 3A, 5V; DESC: REG, Switching, Buck, 3A, ADJ, 150KHz, TO-220; PARAM2: 150KHz, 40VIN; MANF_P#: LM2596S-ADJ; ASSEMBLY: ASSEMBLY; PRICE: PRICE; VALUE: LM2596S-5.0; PACKAGE: D2PAK-5 (TO-263-5)
footprint D2PAK_5 (TO-263-5L, D2PAK-5, DDPAK, FMG170_5_S1000)
pins: 1 VIN (power), 2 OUT (power), 3 GND (power), 4 FB, 5 ON#/OFF, 6 EPAD

## VREG_LM2596S-ADJ_D2PAK
designator U?, comment LM2596S-ADJ  (value not drawn)
REG, Switching, Buck, 3A, ADJ, 150KHz, TO-263; MANF: TI, ON, TS; PARAM: 3A, ADJ; PARAM2: 50KHz, 40VIN; ASSEMBLY: ASSEMBLY; PRICE: PRICE; DESC: REG, Switching, Buck, 3A, ADJ, 150KHz, TO-263; MANF_P#: LM2596S-ADJ; VALUE: LM2596S-ADJ; PACKAGE: D2PAK-5 (TO-263-5)
footprint D2PAK_5 (TO-263-5L, D2PAK-5, DDPAK, FMG170_5_S1000)
pins: 1 VIN (power), 2 OUT (power), 3 GND (power), 4 FB, 5 ON#/OFF, 6 EPAD

## VREG_LM2596T-5_TO220
designator U?, comment LM2596T-5  (value not drawn)
REG, Switching, Buck, 3A, 5.0V, 150KHz, TO-220; MANF: TI, ON, TS; PARAM: 3A, 5V; DESC: REG, Switching, Buck, 3A, ADJ, 150KHz, TO-220; PARAM2: 150KHz, 40VIN; MANF_P#: LM2596T-5.0; ASSEMBLY: ASSEMBLY; PRICE: PRICE; VALUE: LM2596T-5; PACKAGE: TO-220-5
footprint TO220_5 (TO-220 STRAIGHT, T05A pitch: 1.7mm)
pins: 1 VIN (power), 2 OUT (power), 3 GND (power), 4 FB, 5 ON#/OFF

## VREG_LM2596T-ADJ_TO220
designator U?, comment LM2596T-ADJ  (value not drawn)
REG, Switching, Buck, 3A, ADJ, 150KHz, TO-220; MANF: TI, ON, TS; PARAM: 3A, ADJ; PARAM2: 150KHz, 40VIN; ASSEMBLY: ASSEMBLY; PRICE: PRICE; DESC: REG, Switching, Buck, 3A, ADJ, 150KHz, TO-220; MANF_P#: LM2596T-ADJ; VALUE: LM2596T-ADJ; PACKAGE: TO-220-5
footprint TO220_5 (TO-220 STRAIGHT, T05A pitch: 1.7mm)
pins: 1 VIN (power), 2 OUT (power), 3 GND (power), 4 FB, 5 ON#/OFF

## VREG_LM2677_D2PAK
designator U?, comment LM2677  (value not drawn)
REG, Switching, Buck, 0.10~5A, ADJ, 0.28~0.40MHz, 8~40VIN, TO-263-7; MANF: Texas Instruments; MANF_P#: LM2677S-ADJ, LM2677SX-ADJ; PARAM: 0.10~5A, ADJ, -40~125oC; ASSEMBLY: ASSEMBLY; PARAM2: 0.28~0.40MHz, 8~40VIN; PRICE: 6$; VALUE: LM2677; PACKAGE: D2PAK-5 (TO-263-5)
footprint D2PAK_7 (TO-263-7, D2PAK-7, NDW-7, TO-PMOD-7)
pins: 1 SW, 2 VIN, 3 CB, 4 PGND, 5 SYNC, 6 FB, 7 ON/OFF#, 8 EP
text: LM2677S-ADJ

## VREG_LM2677_SON14
designator U?, comment LM2677  (value not drawn)
REG, Switching, Buck, 0.10~5A, ADJ, 0.28~0.40MHz, 8~40VIN, VSON-14; MANF: Texas Instruments; MANF_P#: LM2677SD-ADJ; PARAM: 0.10~5A, ADJ, -40~125oC; ASSEMBLY: ASSEMBLY; PARAM2: 0.28~0.40MHz, 8~40VIN; PRICE: 6$; VALUE: LM2677; PACKAGE: VSON-14
footprint SON80_14T_5060 (NHM VSON, 0.8mm pitch, 5X6mm)
pins: 1 NC, 2 VIN, 3 VIN, 4 CB, 5 NC, 6 SYNC, 7 FB, 8 ON/OFF#, 9 GND, 10 NC, 11 NC, 12 VSW, 13 VSW, 14 VSW, 15 EP

## VREG_LM2677_TO220
designator U?, comment LM2677  (value not drawn)
REG, Switching, Buck, 0.10~5A, ADJ, 0.28~0.40MHz, 8~40VIN, TO-220-7; MANF: Texas Instruments; MANF_P#: LM2677T-ADJ; PARAM: 0.10~5A, ADJ, -40~125oC; ASSEMBLY: ASSEMBLY; PARAM2: 0.28~0.40MHz, 8~40VIN; PRICE: 6$; VALUE: LM2677; PACKAGE: TO-220-7
footprint TO220_7
pins: 1 SW, 2 VIN, 3 CB, 4 PGND, 5 SYNC, 6 FB, 7 ON/OFF#

## VREG_LM2678_D2PAK
designator U?, comment LM2678  (value not drawn)
REG, Switching, Buck, 0.10~5A, ADJ, 0.26MHz, 8~40VIN, TO-263-7; MANF: Texas Instruments; MANF_P#: LM2678S-ADJ, LM2678SX-ADJ; PARAM: 0.10~5A, ADJ, -40~125oC; ASSEMBLY: ASSEMBLY; PARAM2: 0.26MHz, 8~40VIN; PRICE: 6$; VALUE: LM2678; PACKAGE: D2PAK-5 (TO-263-5)
footprint D2PAK_7 (TO-263-7, D2PAK-7, NDW-7, TO-PMOD-7)
pins: 1 SW, 2 VIN, 3 CB, 4 PGND, 5 SYNC, 6 FB, 7 ON/OFF#, 8 EP
text: LM2677S-ADJ

## VREG_LM2678_SON14
designator U?, comment LM2678  (value not drawn)
REG, Switching, Buck, 0.10~5A, ADJ, 0.26MHz, 8~40VIN, VSON-14; MANF: Texas Instruments; MANF_P#: LM2678SD-ADJ; PARAM: 0.10~5A, ADJ, -40~125oC; ASSEMBLY: ASSEMBLY; PARAM2: 0.26MHz, 8~40VIN; PRICE: 6$; VALUE: LM2678; PACKAGE: VSON-14
footprint SON80_14T_5060 (NHM VSON, 0.8mm pitch, 5X6mm)
pins: 1 NC, 2 VIN, 3 VIN, 4 CB, 5 NC, 6 NC, 7 FB, 8 ON/OFF#, 9 GND, 10 NC, 11 NC, 12 VSW, 13 VSW, 14 VSW, 15 EP
text: LM2677SD-ADJ

## VREG_LM2678_TO220
designator U?, comment LM2678  (value not drawn)
REG, Switching, Buck, 0.10~5A, ADJ, 0.26MHz, 8~40VIN, TO-220-7; MANF: Texas Instruments; MANF_P#: LM2678T-ADJ; PARAM: 0.10~5A, ADJ, -40~125oC; ASSEMBLY: ASSEMBLY; PARAM2: 0.26MHz, 8~40VIN; PRICE: 6$; VALUE: LM2678; PACKAGE: TO-220-7
footprint TO220_7
pins: 1 SW, 2 VIN, 3 CB, 4 PGND, 5 SYNC, 6 FB, 7 ON/OFF#
text: LM2677T-ADJ

## VREG_LM5010A_TSSOP14
designator U?, comment LM5010A  (value not drawn)
REG, Switching, Buck, 1A, ADJ, 1MHz, 8~75VIN, TSSOP14; MANF: Texas Instruments; MANF_P#: LM5010AMHX, LM5010AMHE; PARAM2: 8~75VIN, ADJ,; PARAM: 1A, 1MHz, -40~150oC; ASSEMBLY: ASSEMBLY; PRICE: 3.5$; VALUE: LM5010A; PACKAGE: TSSOP-14
footprint SOG65_14T
pins: 1 NC, 2 SW (power), 3 BST (in), 4 ISEN (in), 5 SGND (power), 6 RTN (power), 7 NC, 8 NC, 9 FB (in), 10 SS (in), 11 RON_SD (in), 12 VCC (power), 13 VIN (power), 14 NC, 15 DAP (power)

## VREG_LM5010A_WSON10
designator U?, comment LM5010A  (value not drawn)
REG, Switching, Buck, 1A, ADJ, 1MHz, 8~75VIN, WSON10; MANF: Texas Instruments; MANF_P#: LM5010ASD, LM5010ASDX; PARAM2: 8~75VIN, ADJ,; PARAM: 1A, 1MHz, -40~150oC; ASSEMBLY: ASSEMBLY; PRICE: 3.5$; VALUE: LM5010A; PACKAGE: WSON-10
footprint SON80_10T_4040 (DPR WSON10, 10-Leads, 4x4mm, Pitch 0.80mm)
pins: 1 SW, 2 BST, 3 ISEN, 4 SGND, 5 RTN, 6 FB, 7 SS, 8 RON_SD, 9 VCC, 10 VIN, 11 EP

## VREG_LM22670_D2PAK
designator U?, comment LM22670  (value not drawn)
REG, Switching, Buck, 3A, ADJ, 0.40~0.60MHz, 4.5~42VIN, TO-263-7; MANF: Texas Instruments; MANF_P#: LM22670TJ-ADJ, LM22670TJE-ADJ; PARAM: 3A , 0.40~0.60MHz, -40~125oC; PARAM2: 4.5~42VIN, ADJ; ASSEMBLY: ASSEMBLY; PRICE: 4.4$; VALUE: LM22670; PACKAGE: D2PAK-5 (TO-263-5)
footprint D2PAK_7 (TO-263-7, D2PAK-7, NDW-7, TO-PMOD-7)
pins: 1 SW, 2 VIN, 3 BOOT, 4 GND, 5 RT/SYNC, 6 FB, 7 EN, 8 EP
text: LM22670T

## VREG_LM22670_SOP8
designator U?, comment LM22670  (value not drawn)
REG, Switching, Buck, 3A, ADJ, 0.40~0.60MHz, 4.5~42VIN, HSOP-8; MANF: Texas Instruments; MANF_P#: LM22670MR-ADJ, LM22670MRX-ADJ, LM22670MRE-ADJ; PARAM: 3A , 0.40~0.60MHz, -40~125oC; PARAM2: 4.5~42VIN, ADJ; ASSEMBLY: ASSEMBLY; PRICE: 4.4$; VALUE: LM22670; PACKAGE: SOP-8
footprint SO_8T (SOP-8, 5x3.9mm body 0.5mm pitch, DDA, SO PowerPAD)
pins: 1 BOOT, 2 NC, 3 RT/SYNC, 4 FB, 5 EN, 6 GND, 7 VIN, 8 SW, 9 EP

## VREG_LM22670Q_D2PAK
designator U?, comment LM22670  (value not drawn)
REG, Switching, Buck, 3A, ADJ, 0.40~0.60MHz, 4.5~42VIN, TO-263-7; MANF: Texas Instruments; MANF_P#: LM22670QTJ-ADJ, LM22670QTJE-ADJ; PARAM: 3A , 0.40~0.60MHz, -40~125oC; PARAM2: 4.5~42VIN, ADJ; ASSEMBLY: ASSEMBLY; PRICE: 4.4$; VALUE: LM22670; PACKAGE: D2PAK-5 (TO-263-5)
footprint D2PAK_7 (TO-263-7, D2PAK-7, NDW-7, TO-PMOD-7)
pins: 1 SW, 2 VIN, 3 BOOT, 4 GND, 5 RT/SYNC, 6 FB, 7 EN, 8 EP
text: LM22670T

## VREG_LM22670Q_SOP8
designator U?, comment LM22670  (value not drawn)
REG, Switching, Buck, 3A, ADJ, 0.40~0.60MHz, 4.5~42VIN, HSOP-8; MANF: Texas Instruments; MANF_P#: LM22670QMR-ADJ, LM22670QMRX-ADJ, LM22670QMRE-ADJ; PARAM: 3A , 0.40~0.60MHz, -40~125oC; PARAM2: 4.5~42VIN, ADJ; ASSEMBLY: ASSEMBLY; PRICE: 4.4$; VALUE: LM22670; PACKAGE: SOP-8
footprint SO_8T (SOP-8, 5x3.9mm body 0.5mm pitch, DDA, SO PowerPAD)
pins: 1 BOOT, 2 NC, 3 RT/SYNC, 4 FB, 5 EN, 6 GND, 7 VIN, 8 SW, 9 EP

## VREG_LM22673_D2PAK
designator U?, comment LM22673  (value not drawn)
REG, Switching, Buck, 3A, ADJ, 0.40~0.60MHz, 4.5~42VIN, TO-263; MANF: Texas Instruments; MANF_P#: LM22673TJ-ADJ, LM22673TJE-ADJ; PARAM: 3A, 0.40~0.60MHz, -40~125oC; PARAM2: 4.5~42VIN, ,ADJ, 120mOhm RDSon; ASSEMBLY: ASSEMBLY; PRICE: 4.4$; VALUE: LM22673; PACKAGE: D2PAK-5 (TO-263-5)
footprint D2PAK_7 (TO-263-7, D2PAK-7, NDW-7, TO-PMOD-7)
pins: 1 SW, 2 VIN, 3 BOOT, 4 GND, 5 IADJ, 6 FB, 7 SS, 8 EP

## VREG_LM22673_SOP8
designator U?, comment LM22673  (value not drawn)
REG, Switching, Buck, 3A, ADJ, 0.40~0.60MHz, 4.5~42VIN, SOP-8; MANF: Texas Instruments; MANF_P#: LM22673MR-ADJ, LM22673MRX-ADJ, LM22673MRE-ADJ; PARAM: 3A, 0.40~0.60MHz, -40~125oC; PARAM2: 4.5~42VIN, ,ADJ, 120mOhm RDSon; ASSEMBLY: ASSEMBLY; PRICE: 4.4$; VALUE: LM22673; PACKAGE: SOP-8
footprint SO_8T (SOP-8, 5x3.9mm body 0.5mm pitch, DDA, SO PowerPAD)
pins: 1 BOOT, 2 NC, 3 IADJ, 4 FB, 5 SS, 6 GND, 7 VIN, 8 SW, 9 EP

## VREG_LM22675_SOP8
designator U?, comment LM22675  (value not drawn)
REG, Switching, Buck, 1A, ADJ, 0.5MHz, 4.5~42VIN, HSOP-8; MANF: Texas Instruments; MANF_P#: LM22675MR-ADJ, LM22675MRE-ADJ, LM22675MRX-ADJ; PARAM: 1A, 0.5MHz, -40~125°C; PARAM2: 4.5~42VIN, ADJ, 200mΩ RDSon; ASSEMBLY: ASSEMBLY; PRICE: 3.6$; VALUE: LM22675; PACKAGE: SOP-8
footprint SO_8T (SOP-8, 5x3.9mm body 0.5mm pitch, DDA, SO PowerPAD)
pins: 1 BOOT, 2 NC, 3 NC, 4 FB, 5 EN, 6 GND, 7 VIN, 8 SW, 9 EP

## VREG_LM22676_D2PAK
designator U?, comment LM22676  (value not drawn)
REG, Switching, Buck, 3A, ADJ, 0.40~0.60MHz, 4.5~42VIN, TO-263; MANF: Texas Instruments; MANF_P#: LM22676TJ-ADJ, LM22676TJE-ADJ; PARAM: 3A, 0.40~0.60MHz, -40~125oC; PARAM2: 4.5~42VIN, ADJ, 120mOhm RDSon; ASSEMBLY: ASSEMBLY; PRICE: 4.3$; VALUE: LM22676; PACKAGE: D2PAK-5 (TO-263-5)
footprint D2PAK_7 (TO-263-7, D2PAK-7, NDW-7, TO-PMOD-7)
pins: 1 SW, 2 VIN, 3 BOOT, 4 GND, 5 NC, 6 FB, 7 EN, 8 EP

## VREG_LM22676_SOP8
designator U?, comment LM22676  (value not drawn)
REG, Switching, Buck, 3A, ADJ, 0.40~0.60MHz, 4.5~42VIN, SOP-8; MANF: Texas Instruments; MANF_P#: LM22676MR-ADJ, LM22676MRE-ADJ, LM22676MRX-ADJ; PARAM: 3A, 0.40~0.60MHz, -40~125oC; PARAM2: 4.5~42VIN, ADJ, 120mOhm RDSon; ASSEMBLY: ASSEMBLY; PRICE: 4.3$; VALUE: LM22676; PACKAGE: SOP-8
footprint SO_8T (SOP-8, 5x3.9mm body 0.5mm pitch, DDA, SO PowerPAD)
pins: 1 BOOT, 2 NC, 3 NC, 4 FB, 5 EN, 6 GND, 7 VIN, 8 SW, 9 EP

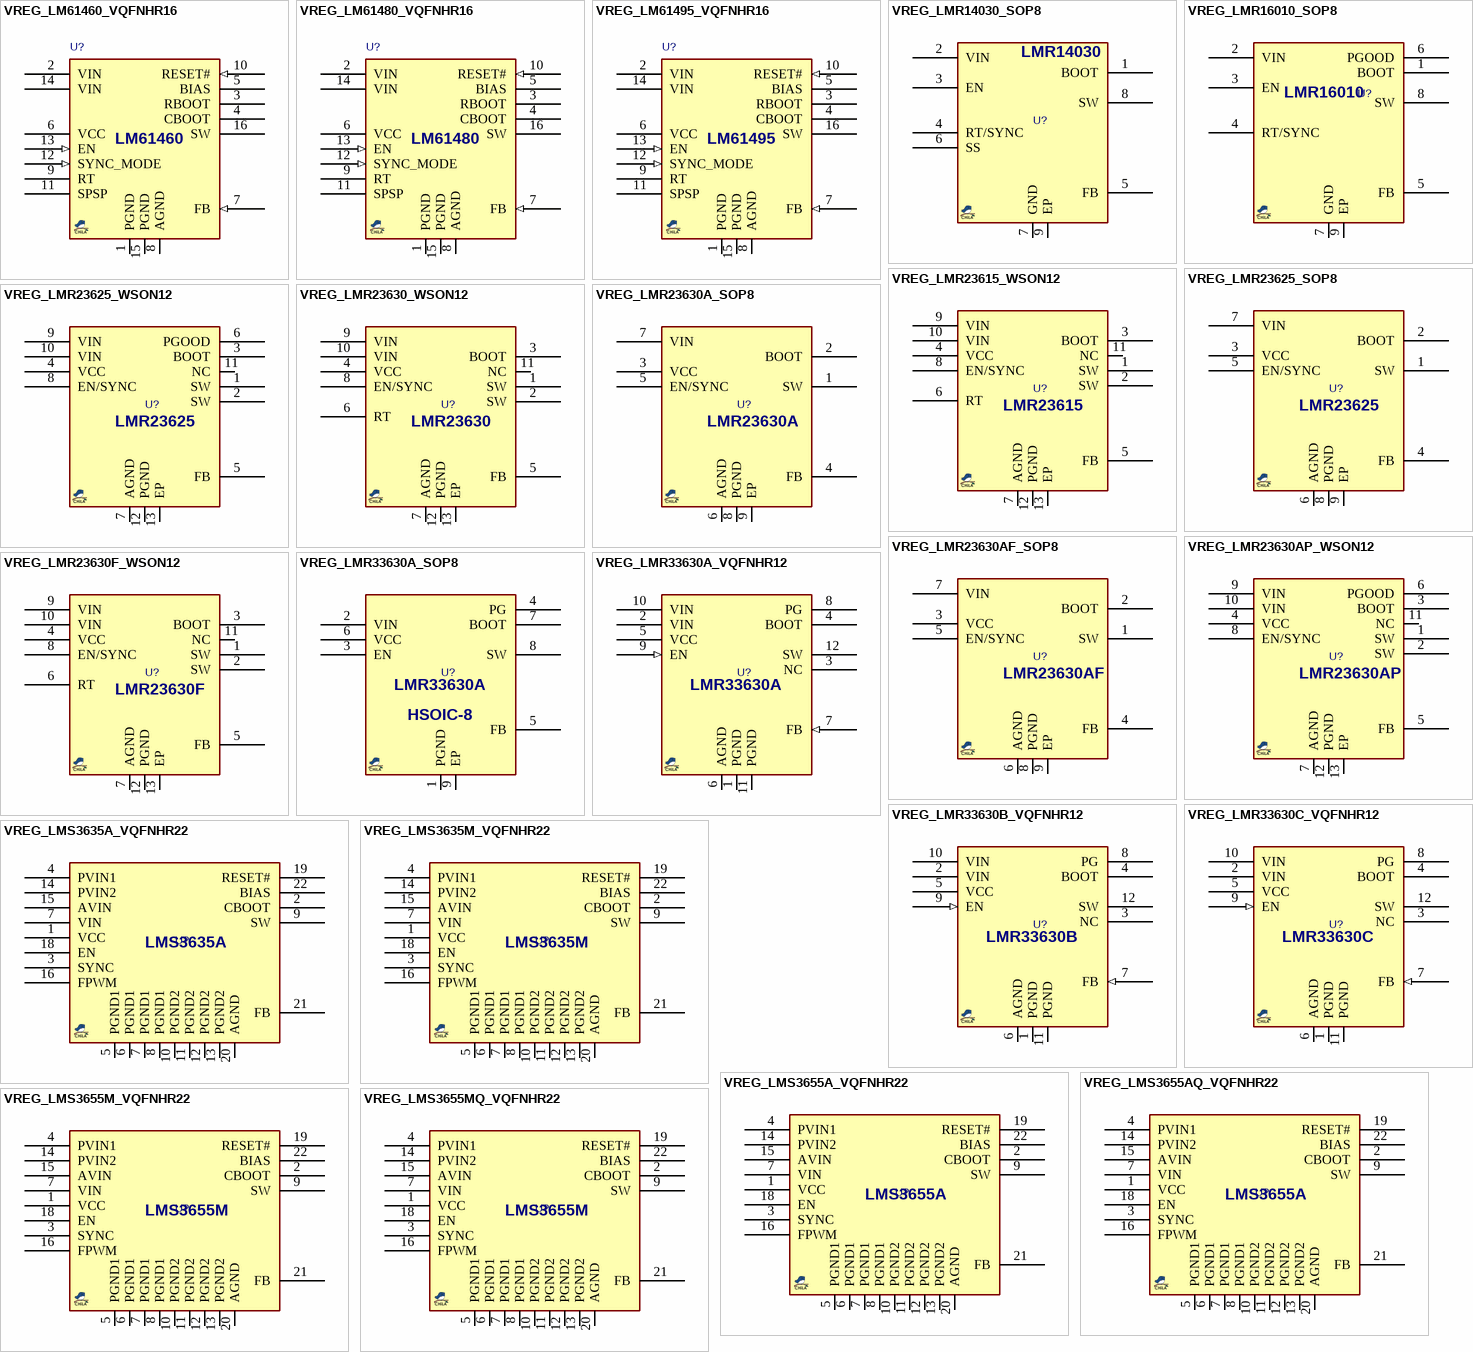
[diagram p2: symbols VREG_LM61460_VQFNHR16 to VREG_LMS3655MQ_VQFNHR22]

## VREG_LM61460_VQFNHR16
designator U?, comment LM61460  (value not drawn)
REG, Switching, Buck, 6A, ADJ, 2.2MHz, 3~36VIN, VQFN-HR-16; MANF: Texas Instruments; MANF_P#: LM61460RPHR; PARAM: 6A, 2.2MHz, -40~150°C; PARAM2: 3~36VIN, ADJ, w Spectrum Spectrum; ASSEMBLY: ASSEMBLY; PRICE: 7$; VALUE: LM61460; PACKAGE: V-QFN-HR16
footprint QFNHR_16_RPH (VQFN-HR16, RPH, 4.5x3.5x1.0mm)
pins: 1 PGND (power), 2 VIN (power), 3 RBOOT, 4 CBOOT, 5 BIAS, 6 VCC (power), 7 FB (in), 8 AGND (power), 9 RT, 10 RESET# (in), 11 SPSP, 12 SYNC_MODE (in), 13 EN (in), 14 VIN (power), 15 PGND (power), 16 SW (power)

## VREG_LM61480_VQFNHR16
designator U?, comment LM61480  (value not drawn)
REG, Switching, Buck, 8A, ADJ, 2.2MHz, 3~36VIN, VQFN-HR-16; MANF: Texas Instruments; MANF_P#: LM61480RPHR; PARAM: 8A, 2.2MHz, -40~150°C; PARAM2: 3~36VIN, ADJ, w Spectrum Spectrum; ASSEMBLY: ASSEMBLY; PRICE: 7$; VALUE: LM61480; PACKAGE: V-QFN-HR16
footprint QFNHR_16_RPH (VQFN-HR16, RPH, 4.5x3.5x1.0mm)
pins: 1 PGND (power), 2 VIN (power), 3 RBOOT, 4 CBOOT, 5 BIAS, 6 VCC (power), 7 FB (in), 8 AGND (power), 9 RT, 10 RESET# (in), 11 SPSP, 12 SYNC_MODE (in), 13 EN (in), 14 VIN (power), 15 PGND (power), 16 SW (power)

## VREG_LM61495_VQFNHR16
designator U?, comment LM61495  (value not drawn)
REG, Switching, Buck, 10A, ADJ, 2.2MHz, 3~36VIN, VQFN-HR-16; MANF: Texas Instruments; MANF_P#: LM61495RPHR; PARAM: 10A, 2.2MHz, -40~150°C; PARAM2: 3~36VIN, ADJ, w Spectrum Spectrum; ASSEMBLY: ASSEMBLY; PRICE: 7$; VALUE: LM61495; PACKAGE: V-QFN-HR16
footprint QFNHR_16_RPH (VQFN-HR16, RPH, 4.5x3.5x1.0mm)
pins: 1 PGND (power), 2 VIN (power), 3 RBOOT, 4 CBOOT, 5 BIAS, 6 VCC (power), 7 FB (in), 8 AGND (power), 9 RT, 10 RESET# (in), 11 SPSP, 12 SYNC_MODE (in), 13 EN (in), 14 VIN (power), 15 PGND (power), 16 SW (power)

## VREG_LMR14030_SOP8
designator U?, comment LMR14030  (value not drawn)
REG, Switching, Buck, 3.5A, ADJ, 0.20~2.5MHz, 4.0~40VIN, SOP8; MANF: Texas Instruments; MANF_P#: LMR14030SDDA; PARAM: 3.5A, 0.20~2.5MHz, -40~125oC; PARAM2: 4.0~40VIN, ADJ, 90mΩ RDSon; ASSEMBLY: ASSEMBLY; PRICE: 3.3$; VALUE: LMR14030; PACKAGE: SOP-8
footprint SO_8T (SOP-8, 5x3.9mm body 0.5mm pitch, DDA, SO PowerPAD)
pins: 1 BOOT, 2 VIN, 3 EN, 4 RT/SYNC, 5 FB, 6 SS, 7 GND, 8 SW, 9 EP

## VREG_LMR16010_SOP8
designator U?, comment LMR16010  (value not drawn)
REG, Switching, Buck, 1A, ADJ, 0.20~2.5MHz, 4.3~60VIN, SOP-8; MANF: Texas Instruments; MANF_P#: LMR16010PDDA; PARAM2: 4.3~60VIN, ADJ, 155mΩ RDSon; PARAM: 1A, 0.20~2.5MHz, -40~125oC; ASSEMBLY: ASSEMBLY; PRICE: 3$; VALUE: LMR16010; PACKAGE: SOP-8
footprint SO_8T (SOP-8, 5x3.9mm body 0.5mm pitch, DDA, SO PowerPAD)
pins: 1 BOOT, 2 VIN, 3 EN, 4 RT/SYNC, 5 FB, 6 PGOOD, 7 GND, 8 SW, 9 EP

## VREG_LMR23615_WSON12
designator U?, comment LMR23615  (value not drawn)
REG, Switching, Buck, 1.5A, ADJ, 2.1MHz, 4.0~36VIN, WSON12; MANF: Texas Instruments; MANF_P#: LMR23615DRR, LMR23615QDRR; PARAM: 1.5A, 2.1MHz, -40~125oC; PARAM2: 4.0~36VIN, ADJ, 160mΩ RDSon; ASSEMBLY: ASSEMBLY; PRICE: 3$; VALUE: LMR23615; PACKAGE: WSON-12
footprint SON50_12T_3030 (WSON-12, DRR, 0.5mm pitch, 3x3x0.8mm)
pins: 1 SW, 2 SW, 3 BOOT, 4 VCC, 5 FB, 6 RT, 7 AGND, 8 EN/SYNC, 9 VIN, 10 VIN, 11 NC, 12 PGND, 13 EP

## VREG_LMR23625_SOP8
designator U?, comment LMR23625  (value not drawn)
REG, Switching, Buck, 2.5A, ADJ, 2.1MHz, 4.0~36VIN, SOP8; MANF: Texas Instruments; MANF_P#: LMR23625CDDA; PARAM: 2.5A, ADJ, -40~125oC; ASSEMBLY: ASSEMBLY; PARAM2: 2.1MHz, 4.0~36VIN; PRICE: 3.2$; VALUE: LMR23625; PACKAGE: SOP-8
footprint SO_8T (SOP-8, 5x3.9mm body 0.5mm pitch, DDA, SO PowerPAD)
pins: 1 SW, 2 BOOT, 3 VCC, 4 FB, 5 EN/SYNC, 6 AGND, 7 VIN, 8 PGND, 9 EP

## VREG_LMR23625_WSON12
designator U?, comment LMR23625  (value not drawn)
REG, Switching, Buck, 2.5A, ADJ, 2.1MHz, 4.0~36VIN, WSON12; MANF: Texas Instruments; MANF_P#: LMR23625CFPDRR, LMR23625CFPQDRRTQ1; PARAM: 2.5A, 2.1MHz, -40~125oC; PARAM2: 4.0~36VIN, ADJ, 180mΩ RDSon; ASSEMBLY: ASSEMBLY; PRICE: 4$; VALUE: LMR23625; PACKAGE: WSON-12
footprint SON50_12T_3030 (WSON-12, DRR, 0.5mm pitch, 3x3x0.8mm)
pins: 1 SW, 2 SW, 3 BOOT, 4 VCC, 5 FB, 6 PGOOD, 7 AGND, 8 EN/SYNC, 9 VIN, 10 VIN, 11 NC, 12 PGND, 13 EP

## VREG_LMR23630_WSON12
designator U?, comment LMR23630  (value not drawn)
REG, Switching, Buck, 3A, ADJ, 0.2~2.2MHz, 4.0~36VIN, WSON12; MANF: Texas Instruments; MANF_P#: LMR23630DRR; PARAM: 3A, 0.2~2.2MHz, -40~125oC; PARAM2: 4.0~36VIN, ADJ, 180mΩ; ASSEMBLY: ASSEMBLY; PRICE: 3.5$; VALUE: LMR23630; PACKAGE: WSON-12
footprint SON50_12T_3030 (WSON-12, DRR, 0.5mm pitch, 3x3x0.8mm)
pins: 1 SW, 2 SW, 3 BOOT, 4 VCC, 5 FB, 6 RT, 7 AGND, 8 EN/SYNC, 9 VIN, 10 VIN, 11 NC, 12 PGND, 13 EP

## VREG_LMR23630A_SOP8
designator U?, comment LMR23630A  (value not drawn)
REG, Switching, Buck, 3A, ADJ, 0.2~2.2MHz, 4.0~36VIN, SOP8; MANF: Texas Instruments; MANF_P#: LMR23630ADDA; PARAM: 3A, 0.2~2.2MHz, -40~125oC; PARAM2: 4.0~36VIN, ADJ, 180mΩ; ASSEMBLY: ASSEMBLY; PRICE: 3.5$; VALUE: LMR23630A; PACKAGE: SOP-8
footprint SO_8T (SOP-8, 5x3.9mm body 0.5mm pitch, DDA, SO PowerPAD)
pins: 1 SW, 2 BOOT, 3 VCC, 4 FB, 5 EN/SYNC, 6 AGND, 7 VIN, 8 PGND, 9 EP

## VREG_LMR23630AF_SOP8
designator U?, comment LMR23630AF  (value not drawn)
REG, Switching, Buck, 3A, ADJ, 0.2~2.2MHz, 4.0~36VIN, SOP8; MANF: Texas Instruments; MANF_P#: LMR23630AFDDA; PARAM: 3A, 0.2~2.2MHz, -40~125oC; PARAM2: 4.0~36VIN, ADJ, FPWM; ASSEMBLY: ASSEMBLY; PRICE: 3.5$; VALUE: LMR23630AF; PACKAGE: SOP-8
footprint SO_8T (SOP-8, 5x3.9mm body 0.5mm pitch, DDA, SO PowerPAD)
pins: 1 SW, 2 BOOT, 3 VCC, 4 FB, 5 EN/SYNC, 6 AGND, 7 VIN, 8 PGND, 9 EP

## VREG_LMR23630AP_WSON12
designator U?, comment LMR23630AP  (value not drawn)
REG, Switching, Buck, 3A, ADJ, 0.2~2.2MHz, 4.0~36VIN, WSON12; MANF: Texas Instruments; MANF_P#: LMR23630APDRR; PARAM: 3A, 0.2~2.2MHz, -40~125oC; PARAM2: 4.0~36VIN, ADJ; ASSEMBLY: ASSEMBLY; PRICE: 3.5$; VALUE: LMR23630AP; PACKAGE: WSON-12
footprint SON50_12T_3030 (WSON-12, DRR, 0.5mm pitch, 3x3x0.8mm)
pins: 1 SW, 2 SW, 3 BOOT, 4 VCC, 5 FB, 6 PGOOD, 7 AGND, 8 EN/SYNC, 9 VIN, 10 VIN, 11 NC, 12 PGND, 13 EP

## VREG_LMR23630F_WSON12
designator U?, comment LMR23630  (value not drawn)
REG, Switching, Buck, 3A, ADJ, 0.2~2.2MHz, 4.0~36VIN, WSON12; MANF: Texas Instruments; MANF_P#: LMR23630FDRR; PARAM: 3A, 0.2~2.2MHz, -40~125oC; PARAM2: 4.0~36VIN, ADJ, FPWM; ASSEMBLY: ASSEMBLY; PRICE: 3.5$; VALUE: LMR23630; PACKAGE: WSON-12
footprint SON50_12T_3030 (WSON-12, DRR, 0.5mm pitch, 3x3x0.8mm)
pins: 1 SW, 2 SW, 3 BOOT, 4 VCC, 5 FB, 6 RT, 7 AGND, 8 EN/SYNC, 9 VIN, 10 VIN, 11 NC, 12 PGND, 13 EP
text: LMR23630F

## VREG_LMR33630A_SOP8
designator U?, comment LMR33630A  (value not drawn)
REG, Switching, Buck, 3A, ADJ, 0.4MHz, 3.8~36VIN, SOP-8; MANF: Texas Instruments; MANF_P#: LMR33630ADDAR; PARAM: 3A, 0.4MHz, -40~125oC; PARAM2: 3.8~36VIN, ADJ, 75mΩ; ASSEMBLY: ASSEMBLY; PRICE: 1$; VALUE: LMR33630A; PACKAGE: HSOIC-8
footprint SO_8T (SOP-8, 5x3.9mm body 1.27mm pitch, DDA, SO PowerPAD)
pins: 1 PGND (power), 2 VIN (power), 3 EN, 4 PG (oc), 5 FB, 6 VCC (power), 7 BOOT, 8 SW (power), 9 EP (power)

## VREG_LMR33630A_VQFNHR12
designator U?, comment LMR33630A  (value not drawn)
REG, Switching, Buck, 3A, ADJ, 0.4MHz, 3.8~36VIN, QFN12; MANF: Texas Instruments; MANF_P#: LMR33630ARNX; PARAM: 3A, 0.4MHz, -40~125oC; PARAM2: 3.8~36VIN, ADJ, 75mΩ; ASSEMBLY: ASSEMBLY; PRICE: 1$; VALUE: LMR33630A; PACKAGE: V-QFN-HR12
footprint QFNHR_12_RNX (VQFN-HR12, RNX, 2X3X1mm, RNX0012B)
pins: 1 PGND (power), 2 VIN (power), 3 NC, 4 BOOT, 5 VCC (power), 6 AGND (power), 7 FB (in), 8 PG (oc), 9 EN (in), 10 VIN (power), 11 PGND (power), 12 SW (power)

## VREG_LMR33630B_VQFNHR12
designator U?, comment LMR33630B  (value not drawn)
REG, Switching, Buck, 3A, ADJ, 1.4MHz, 3.8~36VIN, QFN12; MANF: Texas Instruments; MANF_P#: LMR33630BRNX; PARAM: 3A, 1.4MHz, -40~125oC; PARAM2: 3.8~36VIN, ADJ, 75mΩ; ASSEMBLY: ASSEMBLY; PRICE: 1$; VALUE: LMR33630B; PACKAGE: V-QFN-HR12
footprint QFNHR_12_RNX (VQFN-HR12, RNX, 2X3X1mm, RNX0012B)
pins: 1 PGND (power), 2 VIN (power), 3 NC, 4 BOOT, 5 VCC (power), 6 AGND (power), 7 FB (in), 8 PG (oc), 9 EN (in), 10 VIN (power), 11 PGND (power), 12 SW (power)

## VREG_LMR33630C_VQFNHR12
designator U?, comment LMR33630C  (value not drawn)
REG, Switching, Buck, 3A, ADJ, 2.1MHz, 3.8~36VIN, QFN12; MANF: Texas Instruments; MANF_P#: LMR33630CRNX; PARAM: 3A, 2.1MHz, -40~125oC; PARAM2: 3.8~36VIN, ADJ, 75mΩ; ASSEMBLY: ASSEMBLY; PRICE: 1$; VALUE: LMR33630C; PACKAGE: V-QFN-HR12
footprint QFNHR_12_RNX (VQFN-HR12, RNX, 2X3X1mm, RNX0012B)
pins: 1 PGND (power), 2 VIN (power), 3 NC, 4 BOOT, 5 VCC (power), 6 AGND (power), 7 FB (in), 8 PG (oc), 9 EN (in), 10 VIN (power), 11 PGND (power), 12 SW (power)

## VREG_LMS3635A_VQFNHR22
designator U?, comment LMS3635A  (value not drawn)
REG, Switching, Buck, 3.5A, ADJ, 0.40MHz, 3.9~36VIN, VQFN-HR-22; MANF: Texas Instruments; MANF_P#: LMS3635AQRNLRQ1, LMS3635AQRNLTQ1; PARAM: 3.5A, 0.40MHz, -40~125oC; PARAM2: 3.9~36VIN, ADJ; ASSEMBLY: ASSEMBLY; PRICE: 7$; VALUE: LMS3635A; PACKAGE: V-QFN-HR22
footprint QFNHR_22_RNL (VQFN-HR22, RNL, 5X4X0.9mm)
pins: 1 VCC, 2 CBOOT, 3 SYNC, 4 PVIN1, 5 PGND1, 6 PGND1, 7 VIN, 7 PGND1, 8 PGND1, 9 SW, 10 PGND2, 11 PGND2, 12 PGND2, 13 PGND2, 14 PVIN2, 15 AVIN, 16 FPWM, 18 EN, 19 RESET#, 20 AGND, 21 FB, 22 BIAS

## VREG_LMS3635M_VQFNHR22
designator U?, comment LMS3635M  (value not drawn)
REG, Switching, Buck, 3.5A, ADJ, 0.40MHz, 3.9~36VIN, VQFN-HR-22; MANF: Texas Instruments; MANF_P#: LMS3635MQRNLRQ1, LMS3635MQRNLTQ1; PARAM: 3.5A, 0.40MHz, -40~125oC; PARAM2: 3.9~36VIN, ADJ, w Spectrum Spectrum; ASSEMBLY: ASSEMBLY; PRICE: 7$; VALUE: LMS3635M; PACKAGE: V-QFN-HR22
footprint QFNHR_22_RNL (VQFN-HR22, RNL, 5X4X0.9mm)
pins: 1 VCC, 2 CBOOT, 3 SYNC, 4 PVIN1, 5 PGND1, 6 PGND1, 7 VIN, 7 PGND1, 8 PGND1, 9 SW, 10 PGND2, 11 PGND2, 12 PGND2, 13 PGND2, 14 PVIN2, 15 AVIN, 16 FPWM, 18 EN, 19 RESET#, 20 AGND, 21 FB, 22 BIAS

## VREG_LMS3655A_VQFNHR22
designator U?, comment LMS3655A  (value not drawn)
REG, Switching, Buck, 5.5A, ADJ, 0.40MHz, 3.9~36VIN, VQFN-HR-22; MANF: Texas Instruments; MANF_P#: LMS3655AMRNL; PARAM: 5.5A, 0.40MHz, -40~150oC; PARAM2: 3.9~36VIN, ADJ; ASSEMBLY: ASSEMBLY; PRICE: 7$; VALUE: LMS3655A; PACKAGE: V-QFN-HR22
footprint QFNHR_22_RNL (VQFN-HR22, RNL, 5X4X0.9mm)
pins: 1 VCC, 2 CBOOT, 3 SYNC, 4 PVIN1, 5 PGND1, 6 PGND1, 7 VIN, 7 PGND1, 8 PGND1, 9 SW, 10 PGND2, 11 PGND2, 12 PGND2, 13 PGND2, 14 PVIN2, 15 AVIN, 16 FPWM, 18 EN, 19 RESET#, 20 AGND, 21 FB, 22 BIAS

## VREG_LMS3655AQ_VQFNHR22
designator U?, comment LMS3655A  (value not drawn)
REG, Switching, Buck, 5.5A, ADJ, 0.40MHz, 3.9~36VIN, VQFN-HR-22; MANF: Texas Instruments; MANF_P#: LMS3655AQRNLRQ1, LMS3655AQRNLTQ1; PARAM: 5.5A, 0.40MHz, -40~125oC; PARAM2: 3.9~36VIN, ADJ; ASSEMBLY: ASSEMBLY; PRICE: 7$; VALUE: LMS3655A; PACKAGE: V-QFN-HR22
footprint QFNHR_22_RNL (VQFN-HR22, RNL, 5X4X0.9mm)
pins: 1 VCC, 2 CBOOT, 3 SYNC, 4 PVIN1, 5 PGND1, 6 PGND1, 7 VIN, 7 PGND1, 8 PGND1, 9 SW, 10 PGND2, 11 PGND2, 12 PGND2, 13 PGND2, 14 PVIN2, 15 AVIN, 16 FPWM, 18 EN, 19 RESET#, 20 AGND, 21 FB, 22 BIAS

## VREG_LMS3655M_VQFNHR22
designator U?, comment LMS3655M  (value not drawn)
REG, Switching, Buck, 5.5A, ADJ, 0.40MHz, 3.9~36VIN, VQFN-HR-22; MANF: Texas Instruments; MANF_P#: LMS3655MMRNL; PARAM: 5.5A, 0.40MHz, -40~150oC; PARAM2: 3.9~36VIN, ADJ, w Spectrum Spectrum; ASSEMBLY: ASSEMBLY; PRICE: 7$; VALUE: LMS3655M; PACKAGE: V-QFN-HR22
footprint QFNHR_22_RNL (VQFN-HR22, RNL, 5X4X0.9mm)
pins: 1 VCC, 2 CBOOT, 3 SYNC, 4 PVIN1, 5 PGND1, 6 PGND1, 7 VIN, 7 PGND1, 8 PGND1, 9 SW, 10 PGND2, 11 PGND2, 12 PGND2, 13 PGND2, 14 PVIN2, 15 AVIN, 16 FPWM, 18 EN, 19 RESET#, 20 AGND, 21 FB, 22 BIAS

## VREG_LMS3655MQ_VQFNHR22
designator U?, comment LMS3655M  (value not drawn)
REG, Switching, Buck, 5.5A, ADJ, 0.40MHz, 3.9~36VIN, VQFN-HR-22; MANF: Texas Instruments; MANF_P#: LMS3655MQRNLRQ1, LMS3655MQRNLTQ1; PARAM: 5.5A, 0.40MHz, -40~125oC; PARAM2: 3.9~36VIN, ADJ, w Spectrum Spectrum; ASSEMBLY: ASSEMBLY; PRICE: 7$; VALUE: LMS3655M; PACKAGE: V-QFN-HR22
footprint QFNHR_22_RNL (VQFN-HR22, RNL, 5X4X0.9mm)
pins: 1 VCC, 2 CBOOT, 3 SYNC, 4 PVIN1, 5 PGND1, 6 PGND1, 7 VIN, 7 PGND1, 8 PGND1, 9 SW, 10 PGND2, 11 PGND2, 12 PGND2, 13 PGND2, 14 PVIN2, 15 AVIN, 16 FPWM, 18 EN, 19 RESET#, 20 AGND, 21 FB, 22 BIAS

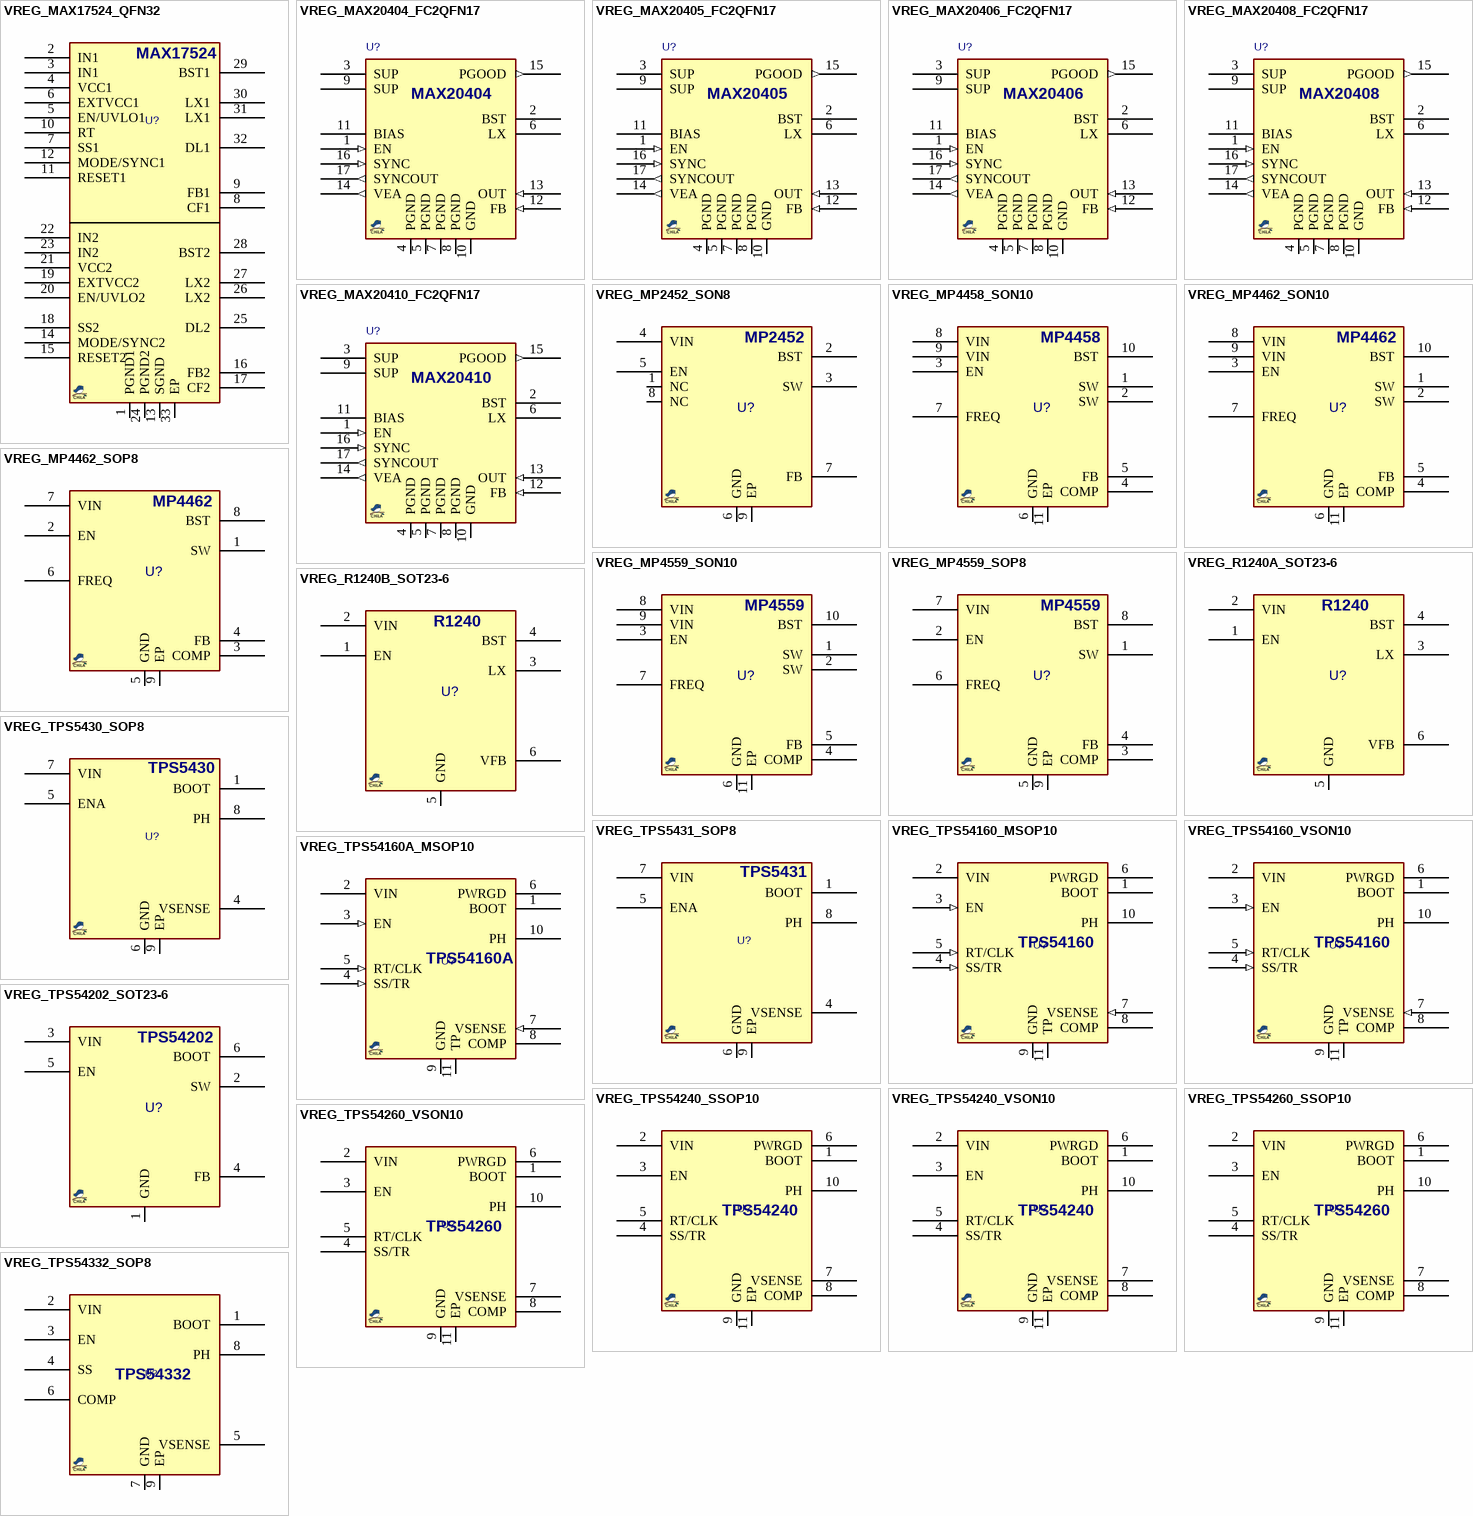
[diagram p3: symbols VREG_MAX17524_QFN32 to VREG_TPS54332_SOP8]

## VREG_MAX17524_QFN32
designator U?, comment MAX17524  (value not drawn)
REG, Switching, Buck, Dual 3A, ADJ, 0.1~1.1MHz, 4.5~60VIN, QFN32; MANF: Texas Instruments; MANF_P#: MAX17524ATJ+; PARAM: Dual 3A, 0.1~1.1MHz, -40~125°C; PARAM2: 4.5~60VIN, ADJ, 180mΩ; ASSEMBLY: ASSEMBLY; PRICE: 6$; VALUE: MAX17524; PACKAGE: QFN-32
footprint QFN50_32T (QFN-32, RGJ, 5X5mm, 0.5mm)
pins: 1 PGND1, 2 IN1, 3 IN1, 4 VCC1, 5 EN/UVLO1, 6 EXTVCC1, 7 SS1, 8 CF1, 9 FB1, 10 RT, 11 RESET1, 12 MODE/SYNC1, 13 SGND, 14 MODE/SYNC2, 15 RESET2, 16 FB2, 17 CF2, 18 SS2, 19 EXTVCC2, 20 EN/UVLO2, 21 VCC2, 22 IN2, 23 IN2, 24 PGND2, 25 DL2, 26 LX2, 27 LX2, 28 BST2, 29 BST1, 30 LX1, 31 LX1, 32 DL1, 33 EP

## VREG_MAX20404_FC2QFN17
designator U?, comment MAX20404  (value not drawn)
REG, Switching, Buck, 4A, ADJ, 2.1MHz, 3~36VIN, FC2QFN-17; MANF: Texas Instruments; MANF_P#: MAX20404AFOC/VY+; PARAM: 4A, 2.1MHz, -40~125°C; PARAM2: 3~36VIN, ADJ, w Spectrum Spectrum; ASSEMBLY: ASSEMBLY; PRICE: 7$; VALUE: MAX20404; PACKAGE: FC2QFN-17
footprint FC2QFN_17 (FC2QFN-17 3.5x3.75x0.8mm)
pins: 1 EN (in), 2 BST (power), 3 SUP (power), 4 PGND (power), 5 PGND (power), 6 LX, 7 PGND (power), 8 PGND (power), 9 SUP (power), 10 GND (power), 11 BIAS (power), 12 FB (in), 13 OUT (in), 14 VEA (out), 15 PGOOD (out), 16 SYNC (in), 17 SYNCOUT (out)

## VREG_MAX20405_FC2QFN17
designator U?, comment MAX20405  (value not drawn)
REG, Switching, Buck, 5A, ADJ, 2.1MHz, 3~36VIN, FC2QFN-17; MANF: Texas Instruments; MANF_P#: MAX20405AFOC/VY+; PARAM: 5A, 2.1MHz, -40~125°C; PARAM2: 3~36VIN, ADJ, w Spectrum Spectrum; ASSEMBLY: ASSEMBLY; PRICE: 7$; VALUE: MAX20405; PACKAGE: FC2QFN-17
footprint FC2QFN_17 (FC2QFN-17 3.5x3.75x0.8mm)
pins: 1 EN (in), 2 BST (power), 3 SUP (power), 4 PGND (power), 5 PGND (power), 6 LX, 7 PGND (power), 8 PGND (power), 9 SUP (power), 10 GND (power), 11 BIAS (power), 12 FB (in), 13 OUT (in), 14 VEA (out), 15 PGOOD (out), 16 SYNC (in), 17 SYNCOUT (out)

## VREG_MAX20406_FC2QFN17
designator U?, comment MAX20406  (value not drawn)
REG, Switching, Buck, 6A, ADJ, 2.1MHz, 3~36VIN, FC2QFN-17; MANF: Texas Instruments; MANF_P#: MAX20406AFOC/VY+; PARAM: 6A, 2.1MHz, -40~125°C; PARAM2: 3~36VIN, ADJ, w Spectrum Spectrum; ASSEMBLY: ASSEMBLY; PRICE: 7$; VALUE: MAX20406; PACKAGE: FC2QFN-17
footprint FC2QFN_17 (FC2QFN-17 3.5x3.75x0.8mm)
pins: 1 EN (in), 2 BST (power), 3 SUP (power), 4 PGND (power), 5 PGND (power), 6 LX, 7 PGND (power), 8 PGND (power), 9 SUP (power), 10 GND (power), 11 BIAS (power), 12 FB (in), 13 OUT (in), 14 VEA (out), 15 PGOOD (out), 16 SYNC (in), 17 SYNCOUT (out)

## VREG_MAX20408_FC2QFN17
designator U?, comment MAX20408  (value not drawn)
REG, Switching, Buck, 8A, ADJ, 2.1MHz, 3~36VIN, FC2QFN-17; MANF: Texas Instruments; MANF_P#: MAX20408AFOC/VY+; PARAM: 8A, 2.1MHz, -40~125°C; PARAM2: 3~36VIN, ADJ, w Spectrum Spectrum; ASSEMBLY: ASSEMBLY; PRICE: 7$; VALUE: MAX20408; PACKAGE: FC2QFN-17
footprint FC2QFN_17 (FC2QFN-17 3.5x3.75x0.8mm)
pins: 1 EN (in), 2 BST (power), 3 SUP (power), 4 PGND (power), 5 PGND (power), 6 LX, 7 PGND (power), 8 PGND (power), 9 SUP (power), 10 GND (power), 11 BIAS (power), 12 FB (in), 13 OUT (in), 14 VEA (out), 15 PGOOD (out), 16 SYNC (in), 17 SYNCOUT (out)

## VREG_MAX20410_FC2QFN17
designator U?, comment MAX20410  (value not drawn)
REG, Switching, Buck, 10A, ADJ, 2.1MHz, 3~36VIN, FC2QFN-17; MANF: Texas Instruments; MANF_P#: MAX20410AFOC/VY+; PARAM: 10A, 2.1MHz, -40~125°C; PARAM2: 3~36VIN, ADJ, w Spectrum Spectrum; ASSEMBLY: ASSEMBLY; PRICE: 7$; VALUE: MAX20410; PACKAGE: FC2QFN-17
footprint FC2QFN_17 (FC2QFN-17 3.5x3.75x0.8mm)
pins: 1 EN (in), 2 BST (power), 3 SUP (power), 4 PGND (power), 5 PGND (power), 6 LX, 7 PGND (power), 8 PGND (power), 9 SUP (power), 10 GND (power), 11 BIAS (power), 12 FB (in), 13 OUT (in), 14 VEA (out), 15 PGOOD (out), 16 SYNC (in), 17 SYNCOUT (out)

## VREG_MP2452_SON8
designator U?, comment MP2452  (value not drawn)
REG, Switching, Buck, 1A, ADJ, 1MHz, 3.3~36VIN, SON8; MANF: MPS; PARAM: 1A, 1MHz, -40~85°C; PARAM2: 3.3~36VIN, ADJ, 500mΩ RDSon; MANF_P#: MP2452DD; ASSEMBLY: ASSEMBLY; PRICE: 3$; VALUE: MP2452; PACKAGE: SON-8
footprint SON50_8T_2030 (TDFN, UFDFPN8, Pitch: 0.5mm 2x3x0.8mm with Thermal pad)
pins: 1 NC (power) "Power supply", 2 BST (power) "Power supply", 3 SW (power) "Power supply", 4 VIN (power) "Power supply", 5 EN (power) "Power supply", 6 GND (power) "Power supply", 7 FB (power) "Power supply", 8 NC (power) "Power supply", 9 EP (power) "Power supply"

## VREG_MP4458_SON10
designator U?, comment MP4458  (value not drawn)
REG, Switching, Buck, 1A, ADJ, 4MHz, 3.8~36VIN, SON10; MANF: MPS; PARAM: 1A, 4MHz, -40~125°C; PARAM2: 3.8~36VIN, ADJ, 300mΩ RDSon; MANF_P#: MP4458DQT; ASSEMBLY: ASSEMBLY; PRICE: 3$; VALUE: MP4458; PACKAGE: SON-10
footprint SON50_10T_3030 (DRC SON, 10 TDFN, 3X3mm, Pitch: 0.5mm with thermal pad)
pins: 1 SW (power) "Power supply", 2 SW (power) "Power supply", 3 EN (power) "Power supply", 4 COMP (power) "Power supply", 5 FB (power) "Power supply", 6 GND (power) "Power supply", 7 FREQ (power) "Power supply", 8 VIN (power) "Power supply", 9 VIN (power) "Power supply", 10 BST (power) "Power supply", 11 EP (power) "Power supply"

## VREG_MP4462_SON10
designator U?, comment MP4462  (value not drawn)
REG, Switching, Buck, 3.5A, ADJ, 4MHz, 3.8~36VIN, SON10; MANF: MPS; PARAM: 3.5A, 4MHz, -40~125°C; PARAM2: 3.8~36VIN, ADJ, 150mΩ RDSon; MANF_P#: MP4462DQ; ASSEMBLY: ASSEMBLY; PRICE: 3$; VALUE: MP4462; PACKAGE: SON-10
footprint SON50_10T_3030 (DRC SON, 10 TDFN, 3X3mm, Pitch: 0.5mm with thermal pad)
pins: 1 SW (power) "Power supply", 2 SW (power) "Power supply", 3 EN (power) "Power supply", 4 COMP (power) "Power supply", 5 FB (power) "Power supply", 6 GND (power) "Power supply", 7 FREQ (power) "Power supply", 8 VIN (power) "Power supply", 9 VIN (power) "Power supply", 10 BST (power) "Power supply", 11 EP (power) "Power supply"